# Altium schematic symbol library 逻辑门器件.SCHLIB: 143 symbols
Pins are listed as number, name and electrical type; pins without a type are passive.

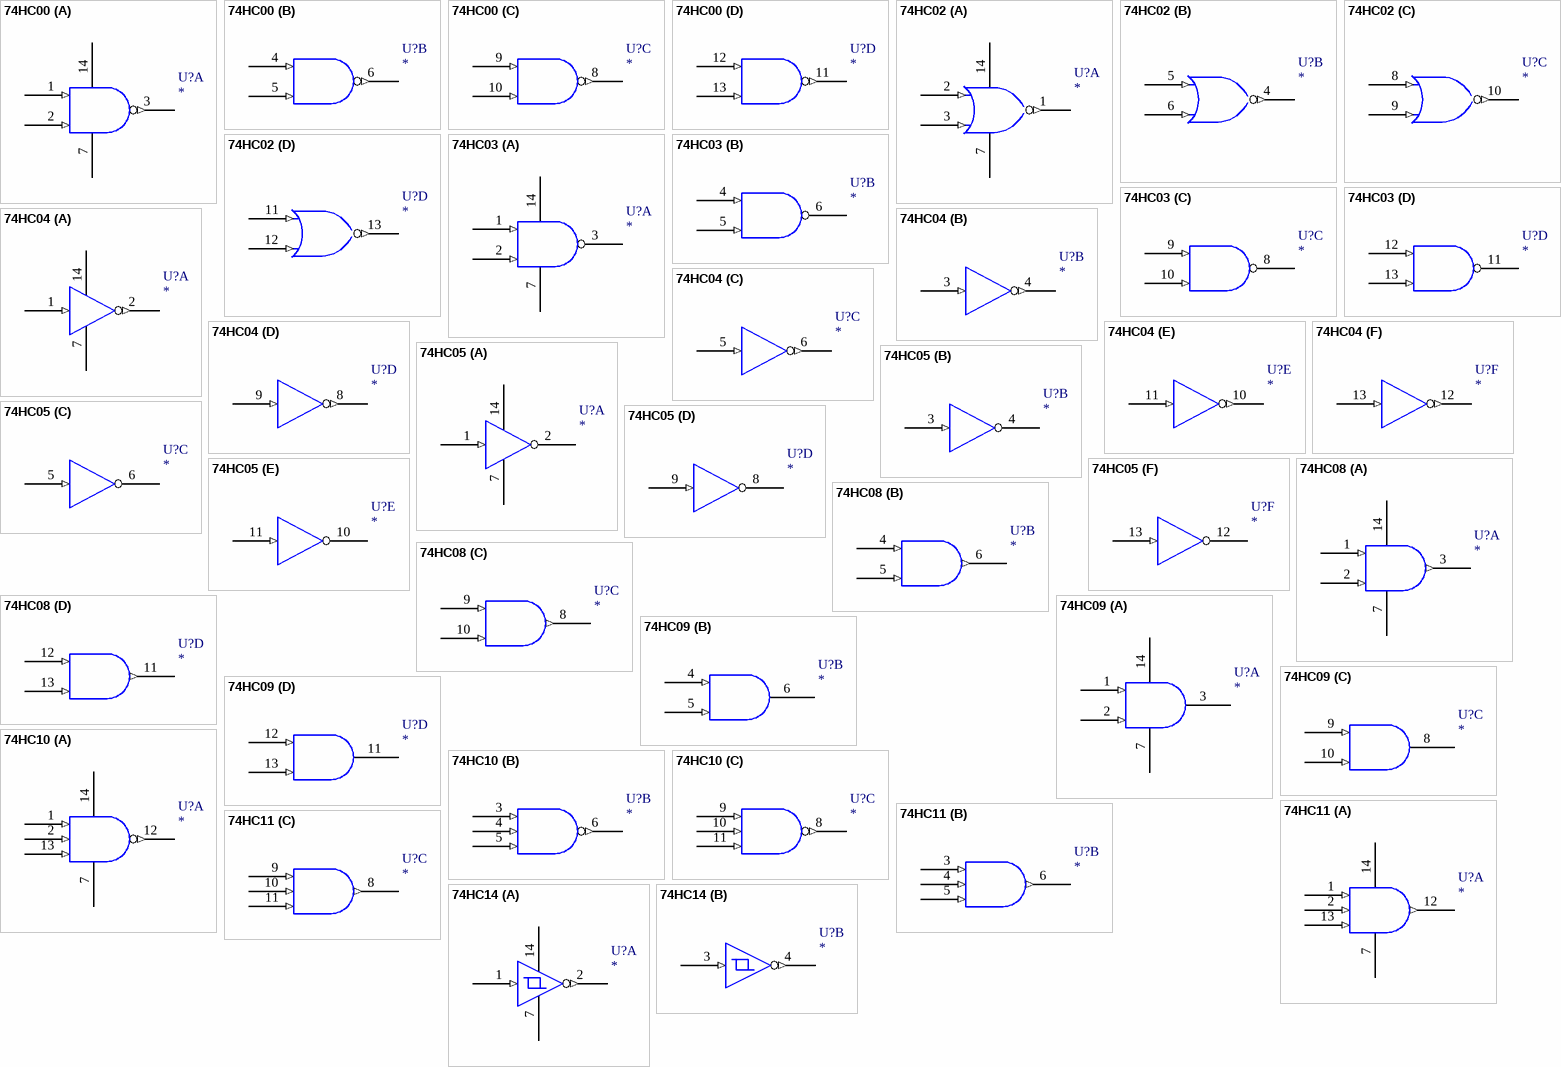
[diagram p0: symbols 74HC00 to 74HC14]

## 74HC00
designator U?
footprint DIP-14
footprint SOIC-14
part A pins: 1 (in), 2 (in), 3 (out), 7 GND (power), 14 VCC (power)
part B pins: 4 (in), 5 (in), 6 (out)
part C pins: 8 (out), 9 (in), 10 (in)
part D pins: 11 (out), 12 (in), 13 (in)

## 74HC02
designator U?
footprint DIP-14
footprint SOIC-14
part A pins: 1 (out), 2 (in), 3 (in), 7 GND (power), 14 VCC (power)
part B pins: 4 (out), 5 (in), 6 (in)
part C pins: 8 (in), 9 (in), 10 (out)
part D pins: 11 (in), 12 (in), 13 (out)

## 74HC03
designator U?
footprint DIP-14
footprint SOIC-14
part A pins: 1 (in), 2 (in), 3 (oc), 7 GND (power), 14 VCC (power)
part B pins: 4 (in), 5 (in), 6 (oc)
part C pins: 8 (oc), 9 (in), 10 (in)
part D pins: 11 (oc), 12 (in), 13 (in)

## 74HC04
designator U?
footprint DIP-14
footprint SOIC-14
part A pins: 1 (in), 2 (out), 7 GND (power), 14 VCC (power)
part B pins: 3 (in), 4 (out)
part C pins: 5 (in), 6 (out)
part D pins: 8 (out), 9 (in)
part E pins: 10 (out), 11 (in)
part F pins: 12 (out), 13 (in)

## 74HC05
designator U?
footprint DIP-14
footprint SOIC-14
part A pins: 1 (in), 2 (oc), 7 GND (power), 14 VCC (power)
part B pins: 3 (in), 4 (oc)
part C pins: 5 (in), 6 (oc)
part D pins: 8 (oc), 9 (in)
part E pins: 10 (oc), 11 (in)
part F pins: 12 (oc), 13 (in)

## 74HC08
designator U?
footprint DIP-14
footprint SOIC-14
part A pins: 1 (in), 2 (in), 3 (out), 7 GND (power), 14 VCC (power)
part B pins: 4 (in), 5 (in), 6 (out)
part C pins: 8 (out), 9 (in), 10 (in)
part D pins: 11 (out), 12 (in), 13 (in)

## 74HC09
designator U?
footprint DIP-14
footprint SOIC-14
part A pins: 1 (in), 2 (in), 3 (oc), 7 GND (power), 14 VCC (power)
part B pins: 4 (in), 5 (in), 6 (oc)
part C pins: 8 (oc), 9 (in), 10 (in)
part D pins: 11 (oc), 12 (in), 13 (in)

## 74HC10
designator U?
footprint DIP-14
footprint SOIC-14
part A pins: 1 (in), 2 (in), 7 GND (power), 12 (out), 13 (in), 14 VCC (power)
part B pins: 3 (in), 4 (in), 5 (in), 6 (out)
part C pins: 8 (out), 9 (in), 10 (in), 11 (in)

## 74HC11
designator U?
footprint DIP-14
footprint SOIC-14
part A pins: 1 (in), 2 (in), 7 GND (power), 12 (out), 13 (in), 14 VCC (power)
part B pins: 3 (in), 4 (in), 5 (in), 6 (out)
part C pins: 8 (out), 9 (in), 10 (in), 11 (in)

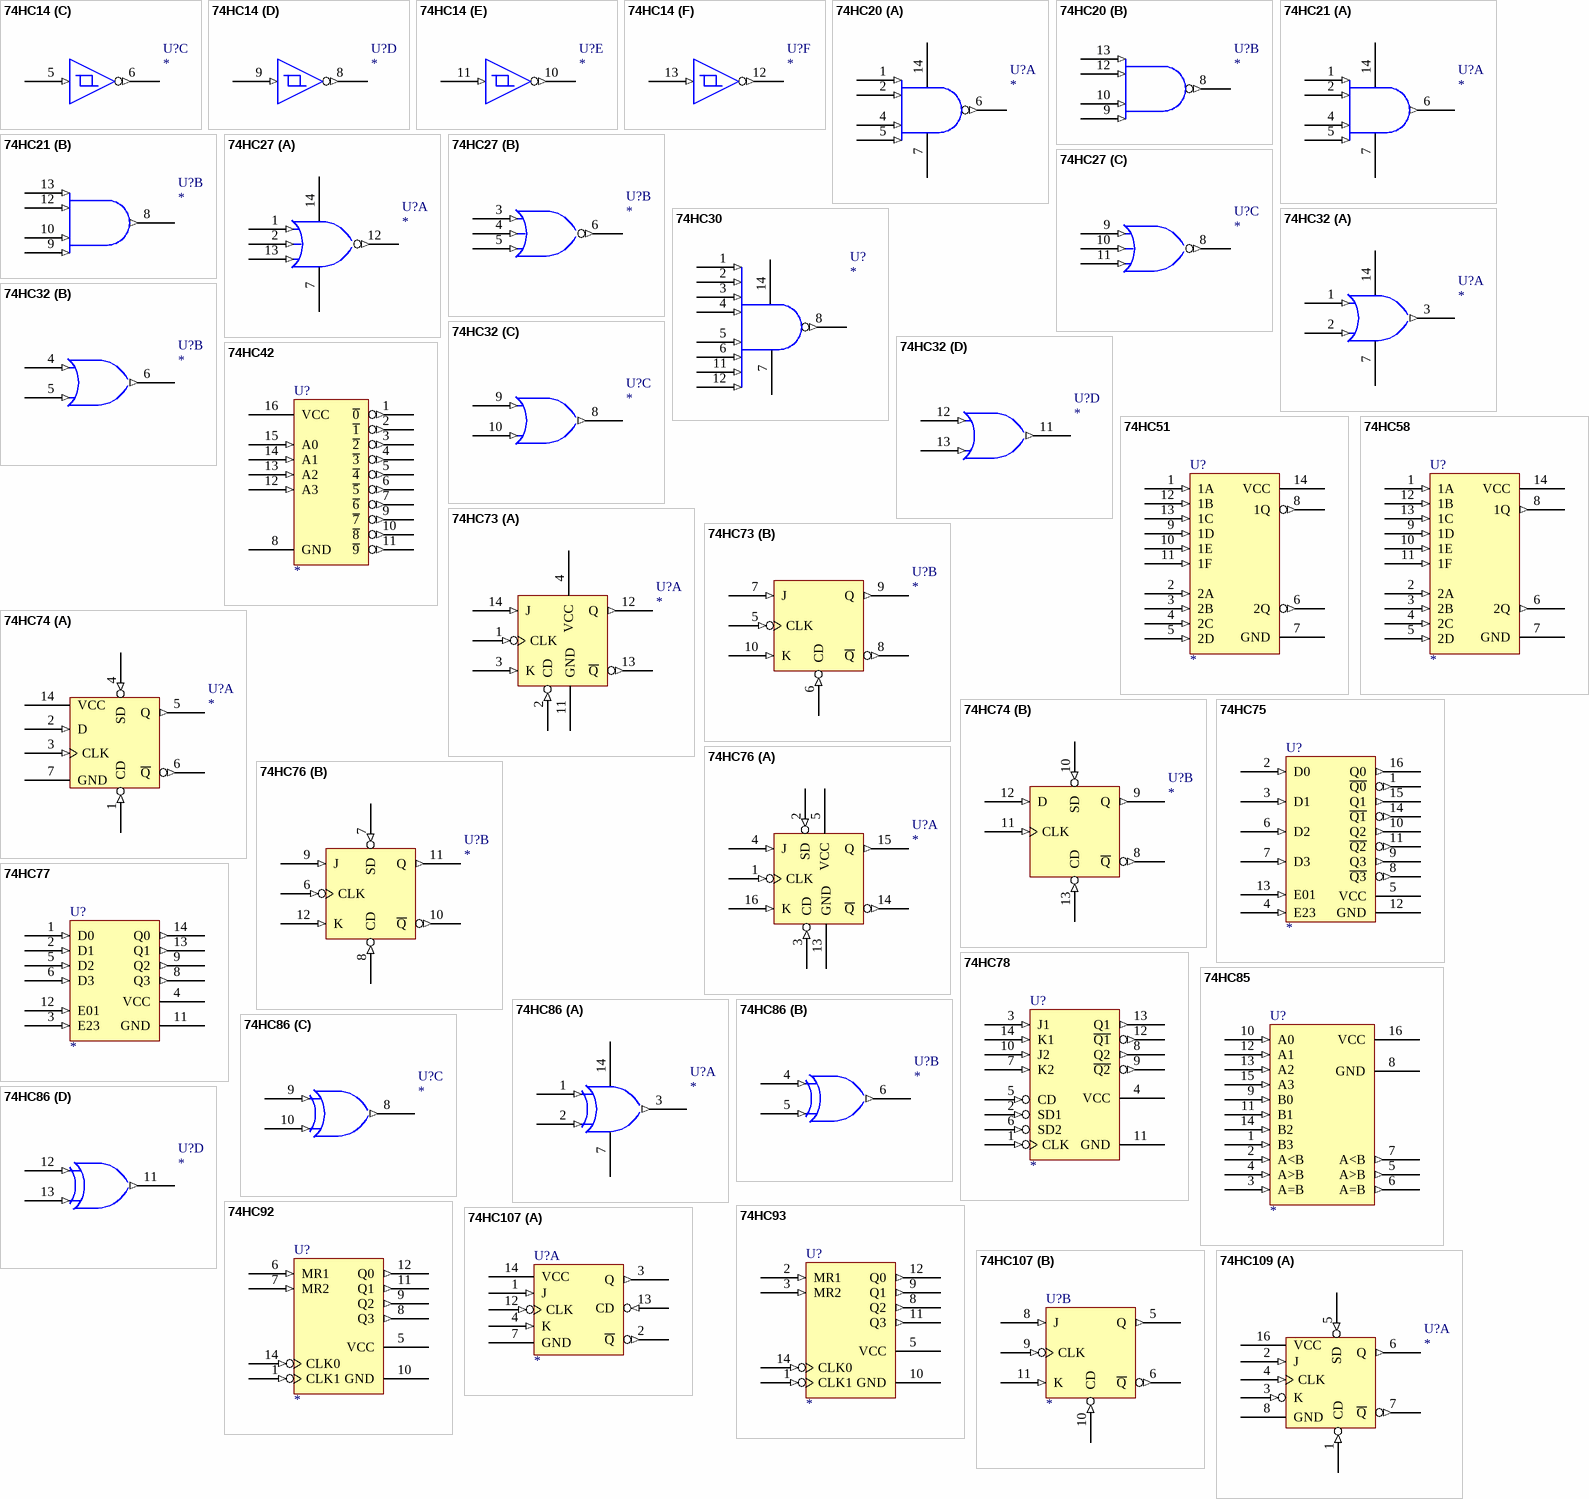
[diagram p1: symbols 74HC14 to 74HC109]

## 74HC14
designator U?
footprint DIP-14
part A pins: 1 (in), 2 (out), 7 GND (power), 14 VCC (power)
part B pins: 3 (in), 4 (out)
part C pins: 5 (in), 6 (out)
part D pins: 8 (out), 9 (in)
part E pins: 10 (out), 11 (in)
part F pins: 12 (out), 13 (in)

## 74HC20
designator U?
footprint DIP-14
footprint SOIC-14
part A pins: 1 (in), 2 (in), 4 (in), 5 (in), 6 (out), 7 GND (power), 14 VCC (power)
part B pins: 8 (out), 9 (in), 10 (in), 12 (in), 13 (in)

## 74HC21
designator U?
footprint DIP-14
footprint SOIC-14
part A pins: 1 (in), 2 (in), 4 (in), 5 (in), 6 (out), 7 GND (power), 14 VCC (power)
part B pins: 8 (out), 9 (in), 10 (in), 12 (in), 13 (in)

## 74HC27
designator U?
footprint DIP-14
footprint SOIC-14
part A pins: 1 (in), 2 (in), 7 GND (power), 12 (out), 13 (in), 14 VCC (power)
part B pins: 3 (in), 4 (in), 5 (in), 6 (out)
part C pins: 8 (out), 9 (in), 10 (in), 11 (in)

## 74HC30
designator U?
footprint DIP-14
footprint SOIC-14
pins: 1 (in), 2 (in), 3 (in), 4 (in), 5 (in), 6 (in), 7 GND (power), 8 (out), 11 (in), 12 (in), 14 VCC (power)

## 74HC32
designator U?
footprint DIP-14
footprint SOIC-14
part A pins: 1 (in), 2 (in), 3 (out), 7 GND (power), 14 VCC (power)
part B pins: 4 (in), 5 (in), 6 (out)
part C pins: 8 (out), 9 (in), 10 (in)
part D pins: 11 (out), 12 (in), 13 (in)

## 74HC42
designator U?
footprint DIP-16
pins: 1 ~{0} (out), 2 ~{1} (out), 3 ~{2} (out), 4 ~{3} (out), 5 ~{4} (out), 6 ~{5} (out), 7 ~{6} (out), 8 GND (power), 9 ~{7} (out), 10 ~{8} (out), 11 ~{9} (out), 12 A3 (in), 13 A2 (in), 14 A1 (in), 15 A0 (in), 16 VCC (power)

## 74HC51
designator U?
footprint DIP-14
pins: 1 1A (in), 2 2A (in), 3 2B (in), 4 2C (in), 5 2D (in), 6 2Q (out), 7 GND (power), 8 1Q (out), 9 1D (in), 10 1E (in), 11 1F (in), 12 1B (in), 13 1C (in), 14 VCC (power)

## 74HC58
designator U?
footprint DIP-14
pins: 1 1A (in), 2 2A (in), 3 2B (in), 4 2C (in), 5 2D (in), 6 2Q (out), 7 GND (power), 8 1Q (out), 9 1D (in), 10 1E (in), 11 1F (in), 12 1B (in), 13 1C (in), 14 VCC (power)

## 74HC73
designator U?
footprint DIP-14
part A pins: 1 CLK (in), 2 CD (in), 3 K (in), 4 VCC (power), 11 GND (power), 12 Q (out), 13 ~{Q} (out), 14 J (in)
part B pins: 5 CLK (in), 6 CD (in), 7 J (in), 8 ~{Q} (out), 9 Q (out), 10 K (in)

## 74HC74
designator U?
footprint DIP-14
footprint SOIC-14
part A pins: 1 CD (in), 2 D (in), 3 CLK (in), 4 SD (in), 5 Q (out), 6 ~{Q} (out), 7 GND (power), 14 VCC (power)
part B pins: 8 ~{Q} (out), 9 Q (out), 10 SD (in), 11 CLK (in), 12 D (in), 13 CD (in)

## 74HC75
designator U?
footprint DIP-16
pins: 1 ~{Q0} (out), 2 D0 (in), 3 D1 (in), 4 E23 (in), 5 VCC (power), 6 D2 (in), 7 D3 (in), 8 ~{Q3} (out), 9 Q3 (out), 10 Q2 (out), 11 ~{Q2} (out), 12 GND (power), 13 E01 (in), 14 ~{Q1} (out), 15 Q1 (out), 16 Q0 (out)

## 74HC76
designator U?
footprint DIP-16
part A pins: 1 CLK (in), 2 SD (in), 3 CD (in), 4 J (in), 5 VCC (power), 13 GND (power), 14 ~{Q} (out), 15 Q (out), 16 K (in)
part B pins: 6 CLK (in), 7 SD (in), 8 CD (in), 9 J (in), 10 ~{Q} (out), 11 Q (out), 12 K (in)

## 74HC77
designator U?
footprint DIP-14
pins: 1 D0 (in), 2 D1 (in), 3 E23 (in), 4 VCC (power), 5 D2 (in), 6 D3 (in), 8 Q3 (out), 9 Q2 (out), 11 GND (power), 12 E01 (in), 13 Q1 (out), 14 Q0 (out)

## 74HC78
designator U?
footprint DIP-14
pins: 1 CLK (in), 2 SD1 (in), 3 J1 (in), 4 VCC (power), 5 CD (in), 6 SD2 (in), 7 K2 (in), 8 Q2 (out), 9 ~{Q2} (out), 10 J2 (in), 11 GND (power), 12 ~{Q1} (out), 13 Q1 (out), 14 K1 (in)

## 74HC85
designator U?
footprint DIP-16
pins: 1 B3 (in), 2 A<B (in), 3 A=B (in), 4 A>B (in), 5 A>B (out), 6 A=B (out), 7 A<B (out), 8 GND (power), 9 B0 (in), 10 A0 (in), 11 B1 (in), 12 A1 (in), 13 A2 (in), 14 B2 (in), 15 A3 (in), 16 VCC (power)

## 74HC86
designator U?
footprint DIP-14
footprint SOIC-14
part A pins: 1 (in), 2 (in), 3 (out), 7 GND (power), 14 VCC (power)
part B pins: 4 (in), 5 (in), 6 (out)
part C pins: 8 (out), 9 (in), 10 (in)
part D pins: 11 (out), 12 (in), 13 (in)

## 74HC92
designator U?
footprint DIP-14
pins: 1 CLK1 (in), 5 VCC (power), 6 MR1 (in), 7 MR2 (in), 8 Q3 (out), 9 Q2 (out), 10 GND (power), 11 Q1 (out), 12 Q0 (out), 14 CLK0 (in)

## 74HC93
designator U?
footprint DIP-14
pins: 1 CLK1 (in), 2 MR1 (in), 3 MR2 (in), 5 VCC (power), 8 Q2 (out), 9 Q1 (out), 10 GND (power), 11 Q3 (out), 12 Q0 (out), 14 CLK0 (in)

## 74HC107
designator U?
footprint DIP-14
part A pins: 1 J (in), 2 ~{Q} (out), 3 Q (out), 4 K (in), 7 GND (power), 12 CLK (in), 13 CD (in), 14 VCC (power)
part B pins: 5 Q (out), 6 ~{Q} (out), 8 J (in), 9 CLK (in), 10 CD (in), 11 K (in)

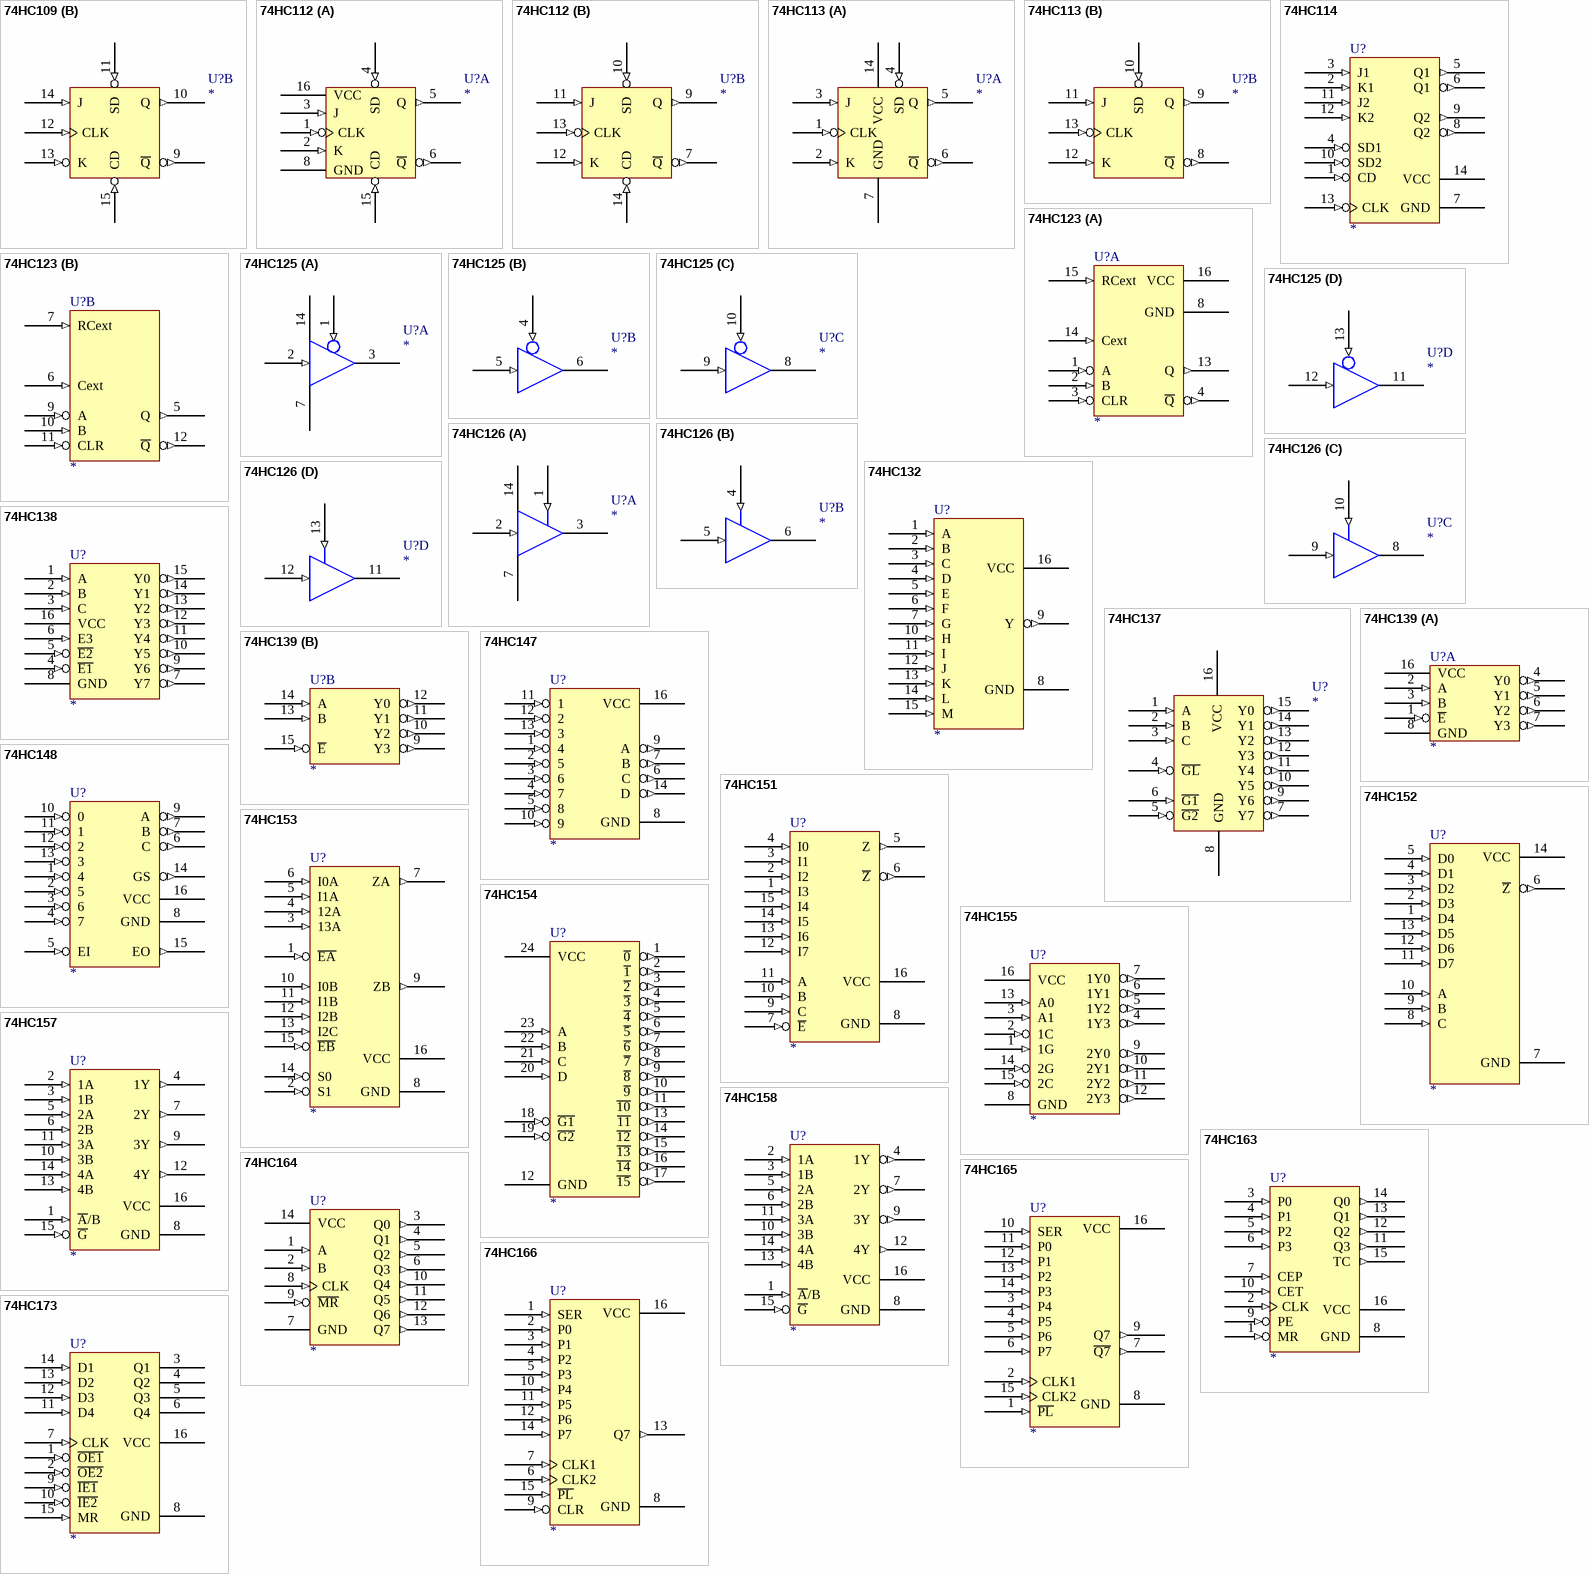
[diagram p2: symbols 74HC109 to 74HC173]

## 74HC109
designator U?
footprint DIP-16
footprint SOIC-16
part A pins: 1 CD (in), 2 J (in), 3 K (in), 4 CLK (in), 5 SD (in), 6 Q (out), 7 ~{Q} (out), 8 GND (power), 16 VCC (power)
part B pins: 9 ~{Q} (out), 10 Q (out), 11 SD (in), 12 CLK (in), 13 K (in), 14 J (in), 15 CD (in)

## 74HC112
designator U?
footprint DIP-16
footprint SOIC-16
part A pins: 1 CLK (in), 2 K (in), 3 J (in), 4 SD (in), 5 Q (out), 6 ~{Q} (out), 8 GND (power), 15 CD (in), 16 VCC (power)
part B pins: 7 ~{Q} (out), 9 Q (out), 10 SD (in), 11 J (in), 12 K (in), 13 CLK (in), 14 CD (in)

## 74HC113
designator U?
footprint DIP-14
footprint SOIC-14
part A pins: 1 CLK (in), 2 K (in), 3 J (in), 4 SD (in), 5 Q (out), 6 ~{Q} (out), 7 GND (power), 14 VCC (power)
part B pins: 8 ~{Q} (out), 9 Q (out), 10 SD (in), 11 J (in), 12 K (in), 13 CLK (in)

## 74HC114
designator U?
footprint DIP-14
footprint SOIC-14
pins: 1 CD (in), 2 K1 (in), 3 J1 (in), 4 SD1 (in), 5 Q1 (out), 6 Q1 (out), 7 GND (power), 8 Q2 (out), 9 Q2 (out), 10 SD2 (in), 11 J2 (in), 12 K2 (in), 13 CLK (in), 14 VCC (power)

## 74HC123
designator U?
footprint DIP-16
part A pins: 1 A (in), 2 B (in), 3 CLR (in), 4 ~{Q} (out), 8 GND (power), 13 Q (out), 14 Cext (in), 15 RCext (in), 16 VCC (power)
part B pins: 5 Q (out), 6 Cext (in), 7 RCext (in), 8 GND (power) hidden to GND, 9 A (in), 10 B (in), 11 CLR (in), 12 ~{Q} (out), 16 VCC (power) hidden to VCC

## 74HC125
designator U?
footprint DIP-14
part A pins: 1 (in), 2 (in), 3 (hiz), 7 GND (power), 14 VCC (power)
part B pins: 4 (in), 5 (in), 6 (hiz)
part C pins: 8 (hiz), 9 (in), 10 (in)
part D pins: 11 (hiz), 12 (in), 13 (in)

## 74HC126
designator U?
footprint DIP-14
part A pins: 1 (in), 2 (in), 3 (hiz), 7 GND (power), 14 VCC (power)
part B pins: 4 (in), 5 (in), 6 (hiz)
part C pins: 8 (hiz), 9 (in), 10 (in)
part D pins: 11 (hiz), 12 (in), 13 (in)

## 74HC132
designator U?
footprint DIP-16
footprint SOIC-16
pins: 1 A (in), 2 B (in), 3 C (in), 4 D (in), 5 E (in), 6 F (in), 7 G (in), 8 GND (power), 9 Y (out), 10 H (in), 11 I (in), 12 J (in), 13 K (in), 14 L (in), 15 M (in), 16 VCC (power)

## 74HC137
designator U?
footprint DIP-16
footprint SOIC-16
pins: 1 A (in), 2 B (in), 3 C (in), 4 ~{GL} (in), 5 ~{G2} (in), 6 ~{G1} (in), 7 Y7 (out), 8 GND (power), 9 Y6 (out), 10 Y5 (out), 11 Y4 (out), 12 Y3 (out), 13 Y2 (out), 14 Y1 (out), 15 Y0 (out), 16 VCC (power)

## 74HC138
designator U?
footprint DIP-16
footprint SOIC-16
pins: 1 A (in), 2 B (in), 3 C (in), 4 ~{E1} (in), 5 ~{E2} (in), 6 E3 (in), 7 Y7 (out), 8 GND (power), 9 Y6 (out), 10 Y5 (out), 11 Y4 (out), 12 Y3 (out), 13 Y2 (out), 14 Y1 (out), 15 Y0 (out), 16 VCC (power)

## 74HC139
designator U?
footprint DIP-16
part A pins: 1 ~{E} (in), 2 A (in), 3 B (in), 4 Y0 (out), 5 Y1 (out), 6 Y2 (out), 7 Y3 (out), 8 GND (power), 16 VCC (power)
part B pins: 9 Y3 (out), 10 Y2 (out), 11 Y1 (out), 12 Y0 (out), 13 B (in), 14 A (in), 15 ~{E} (in)

## 74HC147
designator U?
footprint DIP-16
pins: 1 4 (in), 2 5 (in), 3 6 (in), 4 7 (in), 5 8 (in), 6 C (out), 7 B (out), 8 GND (power), 9 A (out), 10 9 (in), 11 1 (in), 12 2 (in), 13 3 (in), 14 D (out), 16 VCC (power)

## 74HC148
designator U?
footprint DIP-16
pins: 1 4 (in), 2 5 (in), 3 6 (in), 4 7 (in), 5 EI (in), 6 C (out), 7 B (out), 8 GND (power), 9 A (out), 10 0 (in), 11 1 (in), 12 2 (in), 13 3 (in), 14 GS (out), 15 EO (out), 16 VCC (power)

## 74HC151
designator U?
footprint DIP-16
pins: 1 I3 (in), 2 I2 (in), 3 I1 (in), 4 I0 (in), 5 Z (out), 6 ~{Z} (out), 7 ~{E} (in), 8 GND (power), 9 C (in), 10 B (in), 11 A (in), 12 I7 (in), 13 I6 (in), 14 I5 (in), 15 I4 (in), 16 VCC (power)

## 74HC152
designator U?
footprint DIP-14
pins: 1 D4 (in), 2 D3 (in), 3 D2 (in), 4 D1 (in), 5 D0 (in), 6 ~{Z} (out), 7 GND (power), 8 C (in), 9 B (in), 10 A (in), 11 D7 (in), 12 D6 (in), 13 D5 (in), 14 VCC (power)

## 74HC153
designator U?
footprint DIP-16
footprint SOIC-16
pins: 1 ~{EA} (in), 2 S1 (in), 3 13A (in), 4 12A (in), 5 I1A (in), 6 I0A (in), 7 ZA (out), 8 GND (power), 9 ZB (out), 10 I0B (in), 11 I1B (in), 12 I2B (in), 13 I2C (in), 14 S0 (in), 15 ~{EB} (in), 16 VCC (power)

## 74HC154
designator U?
footprint DIP-24
pins: 1 ~{0} (out), 2 ~{1} (out), 3 ~{2} (out), 4 ~{3} (out), 5 ~{4} (out), 6 ~{5} (out), 7 ~{6} (out), 8 ~{7} (out), 9 ~{8} (out), 10 ~{9} (out), 11 ~{10} (out), 12 GND (power), 13 ~{11} (out), 14 ~{12} (out), 15 ~{13} (out), 16 ~{14} (out), 17 ~{15} (out), 18 ~{G1} (in), 19 ~{G2} (in), 20 D (in), 21 C (in), 22 B (in), 23 A (in), 24 VCC (power)

## 74HC155
designator U?
footprint DIP-16
pins: 1 1G (in), 2 1C (in), 3 A1 (in), 4 1Y3 (out), 5 1Y2 (out), 6 1Y1 (out), 7 1Y0 (out), 8 GND (power), 9 2Y0 (out), 10 2Y1 (out), 11 2Y2 (out), 12 2Y3 (out), 13 A0 (in), 14 2G (in), 15 2C (in), 16 VCC (power)

## 74HC157
designator U?
footprint DIP-16
footprint SOIC-16
pins: 1 ~{A}/B (in), 2 1A (in), 3 1B (in), 4 1Y (out), 5 2A (in), 6 2B (in), 7 2Y (out), 8 GND (power), 9 3Y (out), 10 3B (in), 11 3A (in), 12 4Y (out), 13 4B (in), 14 4A (in), 15 ~{G} (in), 16 VCC (power)

## 74HC158
designator U?
footprint DIP-16
footprint SOIC-16
pins: 1 ~{A}/B (in), 2 1A (in), 3 1B (in), 4 1Y (out), 5 2A (in), 6 2B (in), 7 2Y (out), 8 GND (power), 9 3Y (out), 10 3B (in), 11 3A (in), 12 4Y (out), 13 4B (in), 14 4A (in), 15 ~{G} (in), 16 VCC (power)

## 74HC163
designator U?
footprint DIP-16
footprint SOIC-16
pins: 1 MR (in), 2 CLK (in), 3 P0 (in), 4 P1 (in), 5 P2 (in), 6 P3 (in), 7 CEP (in), 8 GND (power), 9 PE (in), 10 CET (in), 11 Q3 (out), 12 Q2 (out), 13 Q1 (out), 14 Q0 (out), 15 TC (out), 16 VCC (power)

## 74HC164
designator U?
footprint DIP-14
pins: 1 A (in), 2 B (in), 3 Q0 (out), 4 Q1 (out), 5 Q2 (out), 6 Q3 (out), 7 GND (power), 8 CLK (in), 9 ~{MR} (in), 10 Q4 (out), 11 Q5 (out), 12 Q6 (out), 13 Q7 (out), 14 VCC (power)

## 74HC165
designator U?
footprint DIP-16
footprint SOIC-16
pins: 1 ~{PL} (in), 2 CLK1 (in), 3 P4 (in), 4 P5 (in), 5 P6 (in), 6 P7 (in), 7 ~{Q7} (out), 8 GND (power), 9 Q7 (out), 10 SER (in), 11 P0 (in), 12 P1 (in), 13 P2 (in), 14 P3 (in), 15 CLK2 (in), 16 VCC (power)

## 74HC166
designator U?
footprint DIP-16
footprint SOIC-16
pins: 1 SER (in), 2 P0 (in), 3 P1 (in), 4 P2 (in), 5 P3 (in), 6 CLK2 (in), 7 CLK1 (in), 8 GND (power), 9 CLR (in), 10 P4 (in), 11 P5 (in), 12 P6 (in), 13 Q7 (out), 14 P7 (in), 15 ~{PL} (in), 16 VCC (power)

## 74HC173
designator U?
footprint DIP-16
pins: 1 ~{OE1} (in), 2 ~{OE2} (in), 3 Q1 (hiz), 4 Q2 (hiz), 5 Q3 (hiz), 6 Q4 (hiz), 7 CLK (in), 8 GND (power), 9 ~{IE1} (in), 10 ~{IE2} (in), 11 D4 (in), 12 D3 (in), 13 D2 (in), 14 D1 (in), 15 MR (in), 16 VCC (power)

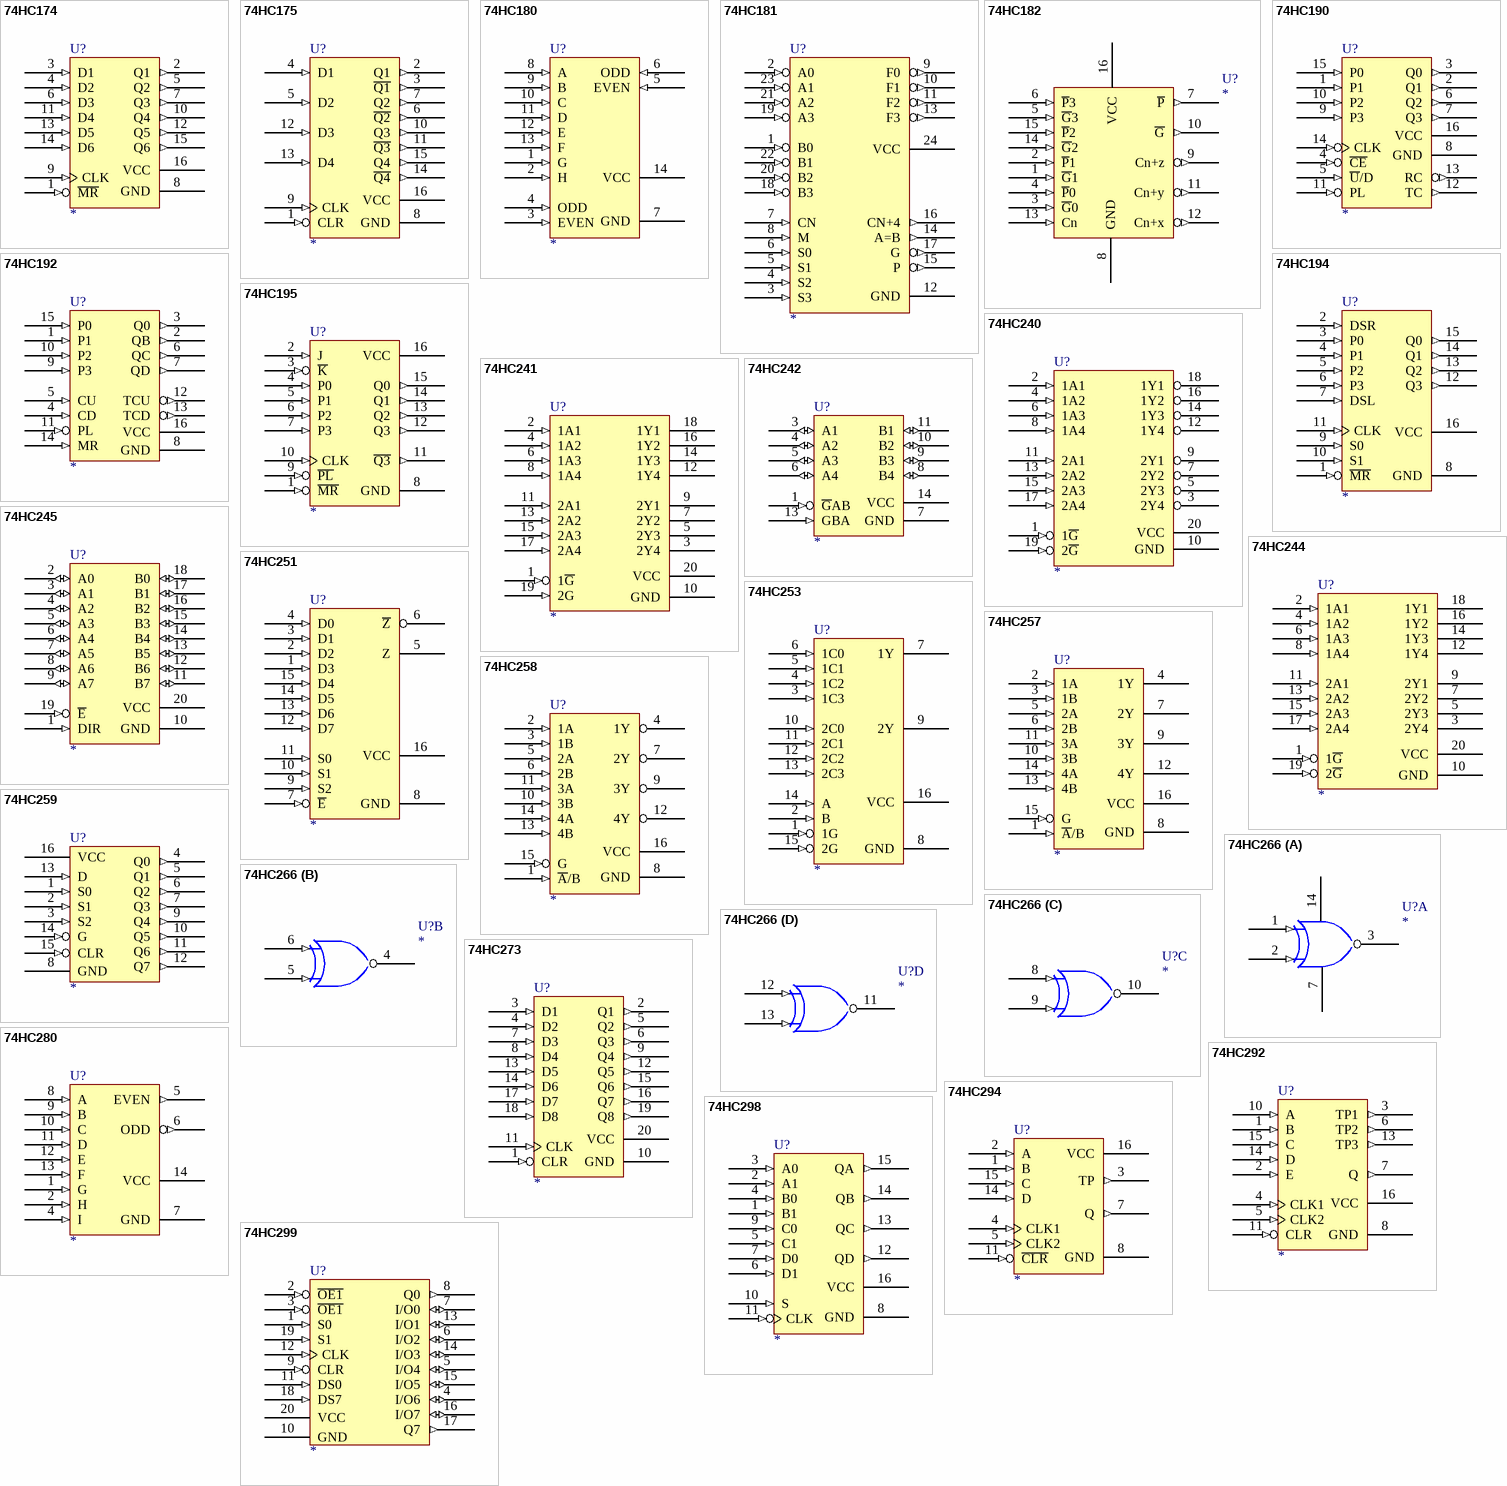
[diagram p3: symbols 74HC174 to 74HC299]

## 74HC174
designator U?
footprint DIP-16
footprint SOIC-16
pins: 1 ~{MR} (in), 2 Q1 (out), 3 D1 (in), 4 D2 (in), 5 Q2 (out), 6 D3 (in), 7 Q3 (out), 8 GND (power), 9 CLK (in), 10 Q4 (out), 11 D4 (in), 12 Q5 (out), 13 D5 (in), 14 D6 (in), 15 Q6 (out), 16 VCC (power)

## 74HC175
designator U?
footprint DIP-16
pins: 1 CLR (in), 2 Q1 (out), 3 ~{Q1} (out), 4 D1 (in), 5 D2 (in), 6 ~{Q2} (out), 7 Q2 (out), 8 GND (power), 9 CLK (in), 10 Q3 (out), 11 ~{Q3} (out), 12 D3 (in), 13 D4 (in), 14 ~{Q4} (out), 15 Q4 (out), 16 VCC (power)

## 74HC180
designator U?
footprint DIP-14
pins: 1 G (in), 2 H (in), 3 EVEN (in), 4 ODD (in), 5 EVEN (in), 6 ODD (in), 7 GND (power), 8 A (in), 9 B (in), 10 C (in), 11 D (in), 12 E (in), 13 F (in), 14 VCC (power)

## 74HC181
designator U?
footprint DIP-24
pins: 1 B0 (in), 2 A0 (in), 3 S3 (in), 4 S2 (in), 5 S1 (in), 6 S0 (in), 7 CN (in), 8 M (in), 9 F0 (out), 10 F1 (out), 11 F2 (out), 12 GND (power), 13 F3 (out), 14 A=B (out), 15 P (out), 16 CN+4 (out), 17 G (out), 18 B3 (in), 19 A3 (in), 20 B2 (in), 21 A2 (in), 22 B1 (in), 23 A1 (in), 24 VCC (power)

## 74HC182
designator U?
footprint DIP-16
pins: 1 ~{G}1 (in), 2 ~{P}1 (in), 3 ~{G}0 (in), 4 ~{P}0 (in), 5 ~{G}3 (in), 6 ~{P}3 (in), 7 ~{P} (out), 8 GND (power), 9 Cn+z (out), 10 ~{G} (out), 11 Cn+y (out), 12 Cn+x (out), 13 Cn (in), 14 ~{G}2 (in), 15 ~{P}2 (in), 16 VCC (power)

## 74HC190
designator U?
footprint DIP-16
pins: 1 P1 (in), 2 Q1 (out), 3 Q0 (out), 4 ~{CE} (in), 5 ~{U}/D (in), 6 Q2 (out), 7 Q3 (out), 8 GND (power), 9 P3 (in), 10 P2 (in), 11 PL (in), 12 TC (out), 13 RC (out), 14 CLK (in), 15 P0 (in), 16 VCC (power)

## 74HC192
designator U?
footprint DIP-16
pins: 1 P1 (in), 2 QB (out), 3 Q0 (out), 4 CD (in), 5 CU (in), 6 QC (out), 7 QD (out), 8 GND (power), 9 P3 (in), 10 P2 (in), 11 PL (in), 12 TCU (out), 13 TCD (out), 14 MR (in), 15 P0 (in), 16 VCC (power)

## 74HC194
designator U?
footprint DIP-16
pins: 1 ~{MR} (in), 2 DSR (in), 3 P0 (in), 4 P1 (in), 5 P2 (in), 6 P3 (in), 7 DSL (in), 8 GND (power), 9 S0 (in), 10 S1 (in), 11 CLK (in), 12 Q3 (out), 13 Q2 (out), 14 Q1 (out), 15 Q0 (out), 16 VCC (power)

## 74HC195
designator U?
footprint DIP-16
pins: 1 ~{MR} (in), 2 J (in), 3 ~{K} (in), 4 P0 (in), 5 P1 (in), 6 P2 (in), 7 P3 (in), 8 GND (power), 9 ~{PL} (in), 10 CLK (in), 11 ~{Q3} (out), 12 Q3 (out), 13 Q2 (out), 14 Q1 (out), 15 Q0 (out), 16 VCC (power)

## 74HC240
designator U?
footprint DIP-20
pins: 1 1~{G} (in), 2 1A1 (in), 3 2Y4 (hiz), 4 1A2 (in), 5 2Y3 (hiz), 6 1A3 (in), 7 2Y2 (hiz), 8 1A4 (in), 9 2Y1 (hiz), 10 GND (power), 11 2A1 (in), 12 1Y4 (hiz), 13 2A2 (in), 14 1Y3 (hiz), 15 2A3 (in), 16 1Y2 (hiz), 17 2A4 (in), 18 1Y1 (hiz), 19 2~{G} (in), 20 VCC (power)

## 74HC241
designator U?
footprint DIP-20
pins: 1 1~{G} (in), 2 1A1 (in), 3 2Y4 (hiz), 4 1A2 (in), 5 2Y3 (hiz), 6 1A3 (in), 7 2Y2 (hiz), 8 1A4 (in), 9 2Y1 (hiz), 10 GND (power), 11 2A1 (in), 12 1Y4 (hiz), 13 2A2 (in), 14 1Y3 (hiz), 15 2A3 (in), 16 1Y2 (hiz), 17 2A4 (in), 18 1Y1 (hiz), 19 2G (in), 20 VCC (power)

## 74HC242
designator U?
footprint DIP-14
pins: 1 ~{G}AB (in), 3 A1 (io), 4 A2 (io), 5 A3 (io), 6 A4 (io), 7 GND (power), 8 B4 (io), 9 B3 (io), 10 B2 (io), 11 B1 (io), 13 GBA (in), 14 VCC (power)

## 74HC244
designator U?
footprint DIP-20
pins: 1 1~{G} (in), 2 1A1 (in), 3 2Y4 (hiz), 4 1A2 (in), 5 2Y3 (hiz), 6 1A3 (in), 7 2Y2 (hiz), 8 1A4 (in), 9 2Y1 (hiz), 10 GND (power), 11 2A1 (in), 12 1Y4 (hiz), 13 2A2 (in), 14 1Y3 (hiz), 15 2A3 (in), 16 1Y2 (hiz), 17 2A4 (in), 18 1Y1 (hiz), 19 2~{G} (in), 20 VCC (power)

## 74HC245
designator U?
footprint DIP-20
pins: 1 DIR (in), 2 A0 (io), 3 A1 (io), 4 A2 (io), 5 A3 (io), 6 A4 (io), 7 A5 (io), 8 A6 (io), 9 A7 (io), 10 GND (power), 11 B7 (io), 12 B6 (io), 13 B5 (io), 14 B4 (io), 15 B3 (io), 16 B2 (io), 17 B1 (io), 18 B0 (io), 19 ~{E} (in), 20 VCC (power)

## 74HC251
designator U?
footprint DIP-16
pins: 1 D3 (in), 2 D2 (in), 3 D1 (in), 4 D0 (in), 5 Z (hiz), 6 ~{Z} (hiz), 7 ~{E} (in), 8 GND (power), 9 S2 (in), 10 S1 (in), 11 S0 (in), 12 D7 (in), 13 D6 (in), 14 D5 (in), 15 D4 (in), 16 VCC (power)

## 74HC253
designator U?
footprint DIP-16
pins: 1 1G (in), 2 B (in), 3 1C3 (in), 4 1C2 (in), 5 1C1 (in), 6 1C0 (in), 7 1Y (hiz), 8 GND (power), 9 2Y (hiz), 10 2C0 (in), 11 2C1 (in), 12 2C2 (in), 13 2C3 (in), 14 A (in), 15 2G (in), 16 VCC (power)

## 74HC257
designator U?
footprint DIP-16
pins: 1 ~{A}/B (in), 2 1A (in), 3 1B (in), 4 1Y (hiz), 5 2A (in), 6 2B (in), 7 2Y (hiz), 8 GND (power), 9 3Y (hiz), 10 3B (in), 11 3A (in), 12 4Y (hiz), 13 4B (in), 14 4A (in), 15 G (in), 16 VCC (power)

## 74HC258
designator U?
footprint DIP-16
pins: 1 ~{A}/B (in), 2 1A (in), 3 1B (in), 4 1Y (hiz), 5 2A (in), 6 2B (in), 7 2Y (hiz), 8 GND (power), 9 3Y (hiz), 10 3B (in), 11 3A (in), 12 4Y (hiz), 13 4B (in), 14 4A (in), 15 G (in), 16 VCC (power)

## 74HC259
designator U?
footprint DIP-16
pins: 1 S0 (in), 2 S1 (in), 3 S2 (in), 4 Q0 (out), 5 Q1 (out), 6 Q2 (out), 7 Q3 (out), 8 GND (power), 9 Q4 (out), 10 Q5 (out), 11 Q6 (out), 12 Q7 (out), 13 D (in), 14 G (in), 15 CLR (in), 16 VCC (power)

## 74HC266
designator U?
footprint DIP-14
part A pins: 1 (in), 2 (in), 3 (oc), 7 GND (power), 14 VCC (power)
part B pins: 4 (oc), 5 (in), 6 (in)
part C pins: 8 (in), 9 (in), 10 (oc)
part D pins: 11 (oc), 12 (in), 13 (in)

## 74HC273
designator U?
footprint DIP-20
pins: 1 CLR (in), 2 Q1 (out), 3 D1 (in), 4 D2 (in), 5 Q2 (out), 6 Q3 (out), 7 D3 (in), 8 D4 (in), 9 Q4 (out), 10 GND (power), 11 CLK (in), 12 Q5 (out), 13 D5 (in), 14 D6 (in), 15 Q6 (out), 16 Q7 (out), 17 D7 (in), 18 D8 (in), 19 Q8 (out), 20 VCC (power)

## 74HC280
designator U?
footprint DIP-14
pins: 1 G (in), 2 H (in), 4 I (in), 5 EVEN (out), 6 ODD (out), 7 GND (power), 8 A (in), 9 B (in), 10 C (in), 11 D (in), 12 E (in), 13 F (in), 14 VCC (power)

## 74HC292
designator U?
footprint DIP-16
pins: 1 B (in), 2 E (in), 3 TP1 (out), 4 CLK1 (in), 5 CLK2 (in), 6 TP2 (out), 7 Q (out), 8 GND (power), 10 A (in), 11 CLR (in), 13 TP3 (out), 14 D (in), 15 C (in), 16 VCC (power)

## 74HC294
designator U?
footprint DIP-16
pins: 1 B (in), 2 A (in), 3 TP (out), 4 CLK1 (in), 5 CLK2 (in), 7 Q (out), 8 GND (power), 11 ~{CLR} (in), 14 D (in), 15 C (in), 16 VCC (power)

## 74HC298
designator U?
footprint DIP-16
pins: 1 B1 (in), 2 A1 (in), 3 A0 (in), 4 B0 (in), 5 C1 (in), 6 D1 (in), 7 D0 (in), 8 GND (power), 9 C0 (in), 10 S (in), 11 CLK (in), 12 QD (out), 13 QC (out), 14 QB (out), 15 QA (out), 16 VCC (power)

## 74HC299
designator U?
footprint DIP-20
pins: 1 S0 (in), 2 ~{OE1} (in), 3 ~{OE1} (in), 4 I/O6 (io), 5 I/O4 (io), 6 I/O2 (io), 7 I/O0 (io), 8 Q0 (out), 9 CLR (in), 10 GND (power), 11 DS0 (in), 12 CLK (in), 13 I/O1 (io), 14 I/O3 (io), 15 I/O5 (io), 16 I/O7 (io), 17 Q7 (out), 18 DS7 (in), 19 S1 (in), 20 VCC (power)

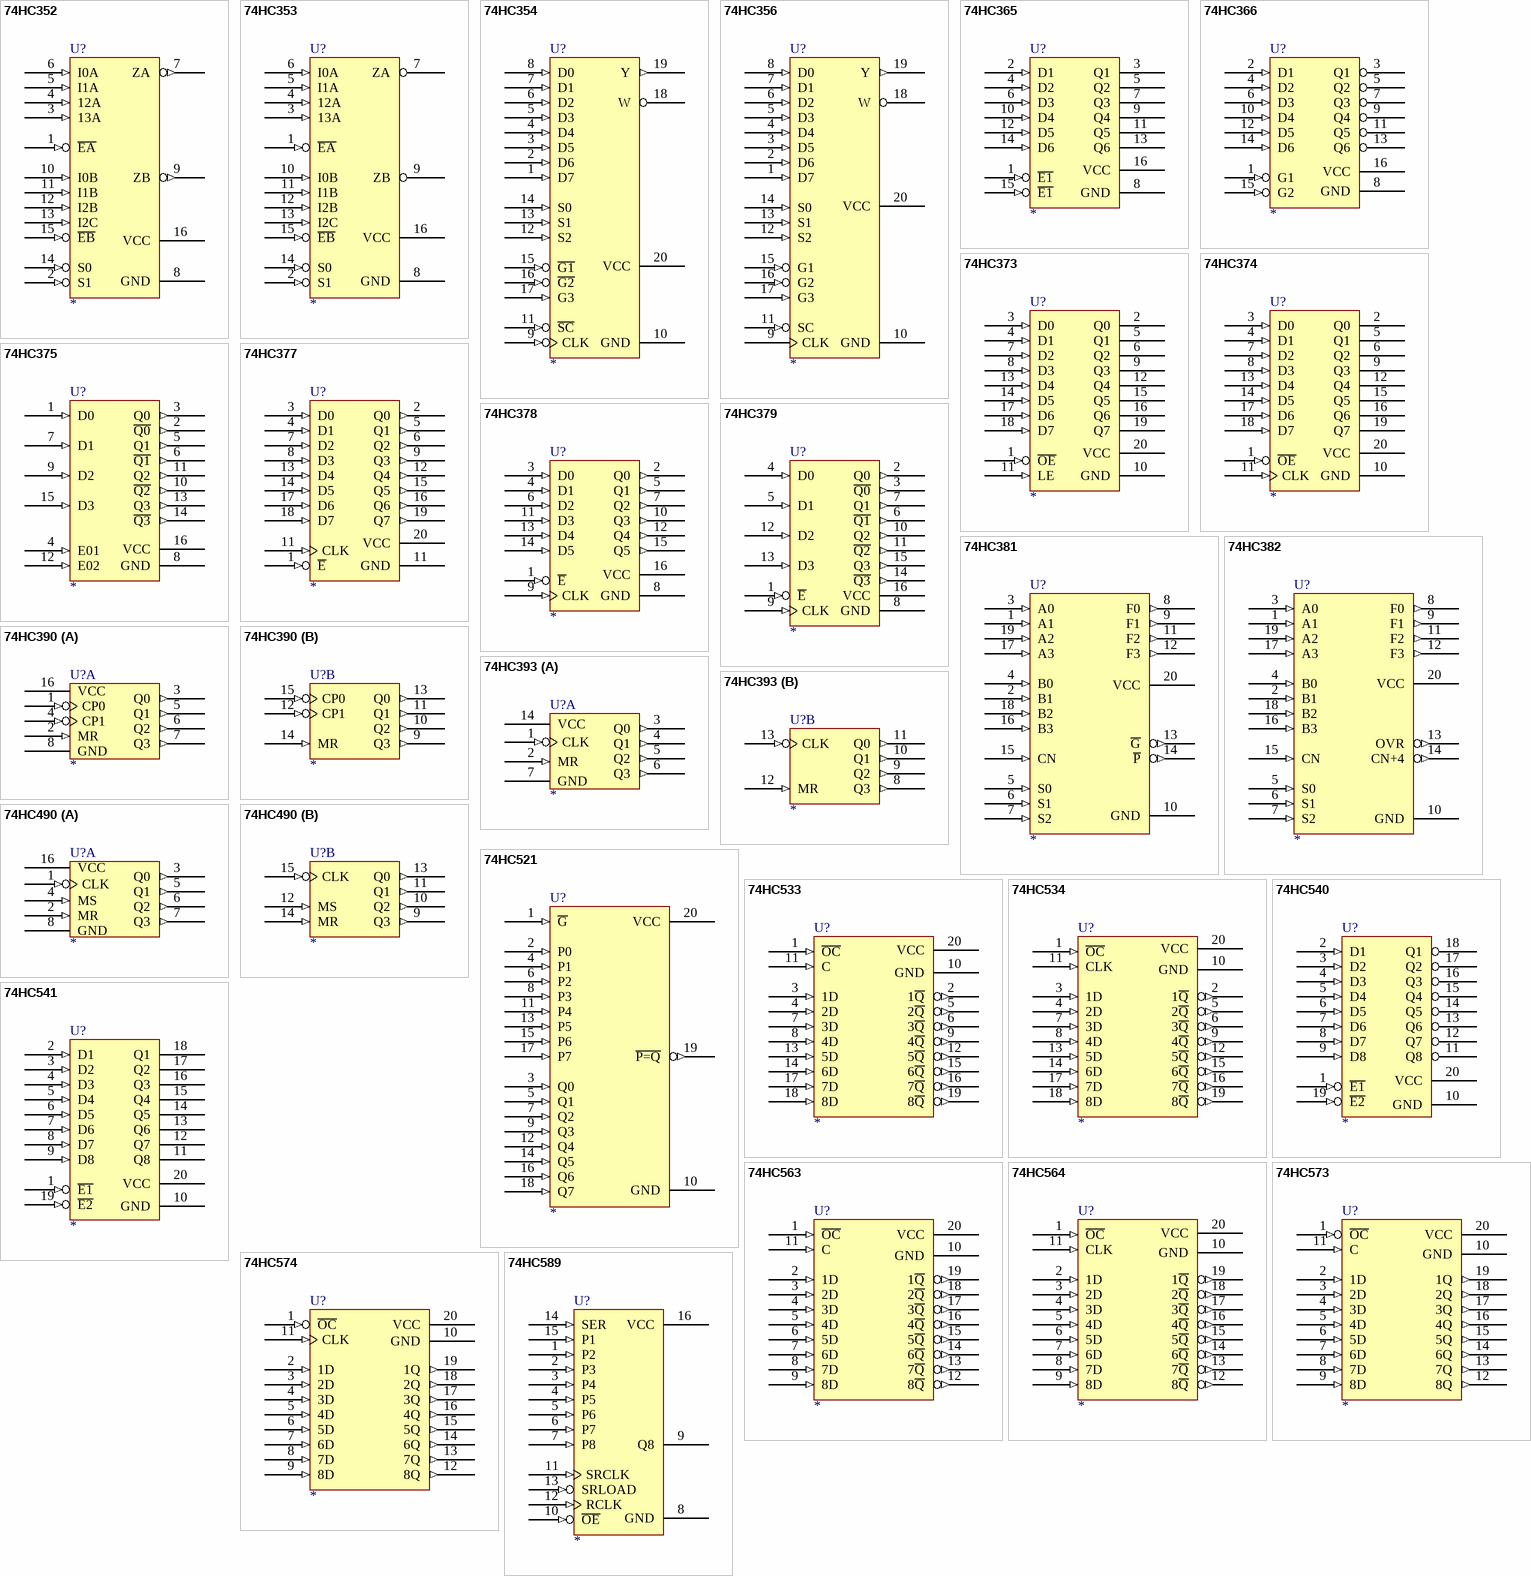
[diagram p4: symbols 74HC352 to 74HC589]

## 74HC352
designator U?
footprint DIP-16
pins: 1 ~{EA} (in), 2 S1 (in), 3 13A (in), 4 12A (in), 5 I1A (in), 6 I0A (in), 7 ZA (out), 8 GND (power), 9 ZB (out), 10 I0B (in), 11 I1B (in), 12 I2B (in), 13 I2C (in), 14 S0 (in), 15 ~{EB} (in), 16 VCC (power)

## 74HC353
designator U?
footprint DIP-16
pins: 1 ~{EA} (in), 2 S1 (in), 3 13A (in), 4 12A (in), 5 I1A (in), 6 I0A (in), 7 ZA (hiz), 8 GND (power), 9 ZB (hiz), 10 I0B (in), 11 I1B (in), 12 I2B (in), 13 I2C (in), 14 S0 (in), 15 ~{EB} (in), 16 VCC (power)

## 74HC354
designator U?
footprint DIP-20
pins: 1 D7 (in), 2 D6 (in), 3 D5 (in), 4 D4 (in), 5 D3 (in), 6 D2 (in), 7 D1 (in), 8 D0 (in), 9 CLK (in), 10 GND (power), 11 ~{SC} (in), 12 S2 (in), 13 S1 (in), 14 S0 (in), 15 ~{G1} (in), 16 ~{G2} (in), 17 G3 (in), 18 W (hiz), 19 Y (out), 20 VCC (power)

## 74HC356
designator U?
footprint DIP-20
pins: 1 D7 (in), 2 D6 (in), 3 D5 (in), 4 D4 (in), 5 D3 (in), 6 D2 (in), 7 D1 (in), 8 D0 (in), 9 CLK, 10 GND (power), 11 SC (in), 12 S2 (in), 13 S1 (in), 14 S0 (in), 15 G1 (in), 16 G2 (in), 17 G3 (in), 18 W (hiz), 19 Y (out), 20 VCC (power)

## 74HC365
designator U?
footprint DIP-16
pins: 1 ~{E1} (in), 2 D1 (in), 3 Q1 (hiz), 4 D2 (in), 5 Q2 (hiz), 6 D3 (in), 7 Q3 (hiz), 8 GND (power), 9 Q4 (hiz), 10 D4 (in), 11 Q5 (hiz), 12 D5 (in), 13 Q6 (hiz), 14 D6 (in), 15 ~{E1} (in), 16 VCC (power)

## 74HC366
designator U?
footprint DIP-16
pins: 1 G1 (in), 2 D1 (in), 3 Q1 (hiz), 4 D2 (in), 5 Q2 (hiz), 6 D3 (in), 7 Q3 (hiz), 8 GND (power), 9 Q4 (hiz), 10 D4 (in), 11 Q5 (hiz), 12 D5 (in), 13 Q6 (hiz), 14 D6 (in), 15 G2 (in), 16 VCC (power)

## 74HC373
designator U?
footprint DIP-20
pins: 1 ~{OE} (in), 2 Q0 (hiz), 3 D0 (in), 4 D1 (in), 5 Q1 (hiz), 6 Q2 (hiz), 7 D2 (in), 8 D3 (in), 9 Q3 (hiz), 10 GND (power), 11 LE (in), 12 Q4 (hiz), 13 D4 (in), 14 D5 (in), 15 Q5 (hiz), 16 Q6 (hiz), 17 D6 (in), 18 D7 (in), 19 Q7 (hiz), 20 VCC (power)

## 74HC374
designator U?
footprint DIP-20
pins: 1 ~{OE} (in), 2 Q0 (hiz), 3 D0 (in), 4 D1 (in), 5 Q1 (hiz), 6 Q2 (hiz), 7 D2 (in), 8 D3 (in), 9 Q3 (hiz), 10 GND (power), 11 CLK (in), 12 Q4 (hiz), 13 D4 (in), 14 D5 (in), 15 Q5 (hiz), 16 Q6 (hiz), 17 D6 (in), 18 D7 (in), 19 Q7 (hiz), 20 VCC (power)

## 74HC375
designator U?
footprint DIP-16
pins: 1 D0 (in), 2 ~{Q0} (out), 3 Q0 (out), 4 E01 (in), 5 Q1 (out), 6 ~{Q1} (out), 7 D1 (in), 8 GND (power), 9 D2 (in), 10 ~{Q2} (out), 11 Q2 (out), 12 E02 (in), 13 Q3 (out), 14 ~{Q3} (out), 15 D3 (in), 16 VCC (power)

## 74HC377
designator U?
footprint DIP-20
pins: 1 ~{E} (in), 2 Q0 (out), 3 D0 (in), 4 D1 (in), 5 Q1 (out), 6 Q2 (out), 7 D2 (in), 8 D3 (in), 9 Q3 (out), 11 CLK (in), 11 GND (power), 12 Q4 (out), 13 D4 (in), 14 D5 (in), 15 Q5 (out), 16 Q6 (out), 17 D6 (in), 18 D7 (in), 19 Q7 (out), 20 VCC (power)

## 74HC378
designator U?
footprint DIP-16
pins: 1 ~{E} (in), 2 Q0 (out), 3 D0 (in), 4 D1 (in), 5 Q1 (out), 6 D2 (in), 7 Q2 (out), 8 GND (power), 9 CLK (in), 10 Q3 (out), 11 D3 (in), 12 Q4 (out), 13 D4 (in), 14 D5 (in), 15 Q5 (out), 16 VCC (power)

## 74HC379
designator U?
footprint DIP-16
pins: 1 ~{E} (in), 2 Q0 (out), 3 ~{Q0} (out), 4 D0 (in), 5 D1 (in), 6 ~{Q1} (out), 7 Q1 (out), 8 GND (power), 9 CLK (in), 10 Q2 (out), 11 ~{Q2} (out), 12 D2 (in), 13 D3 (in), 14 ~{Q3} (out), 15 Q3 (out), 16 VCC (power)

## 74HC381
designator U?
footprint DIP-20
pins: 1 A1 (in), 2 B1 (in), 3 A0 (in), 4 B0 (in), 5 S0 (in), 6 S1 (in), 7 S2 (in), 8 F0 (out), 9 F1 (out), 10 GND (power), 11 F2 (out), 12 F3 (out), 13 ~{G} (out), 14 ~{P} (out), 15 CN (in), 16 B3 (in), 17 A3 (in), 18 B2 (in), 19 A2 (in), 20 VCC (power)

## 74HC382
designator U?
footprint DIP-20
pins: 1 A1 (in), 2 B1 (in), 3 A0 (in), 4 B0 (in), 5 S0 (in), 6 S1 (in), 7 S2 (in), 8 F0 (out), 9 F1 (out), 10 GND (power), 11 F2 (out), 12 F3 (out), 13 OVR (out), 14 CN+4 (out), 15 CN (in), 16 B3 (in), 17 A3 (in), 18 B2 (in), 19 A2 (in), 20 VCC (power)

## 74HC390
designator U?
footprint DIP-16
part A pins: 1 CP0 (in), 2 MR (in), 3 Q0 (out), 4 CP1 (in), 5 Q1 (out), 6 Q2 (out), 7 Q3 (out), 8 GND (power), 16 VCC (power)
part B pins: 9 Q3 (out), 10 Q2 (out), 11 Q1 (out), 12 CP1 (in), 13 Q0 (out), 14 MR (in), 15 CP0 (in)

## 74HC393
designator U?
footprint DIP-14
part A pins: 1 CLK (in), 2 MR (in), 3 Q0 (out), 4 Q1 (out), 5 Q2 (out), 6 Q3 (out), 7 GND (power), 14 VCC (power)
part B pins: 8 Q3 (out), 9 Q2 (out), 10 Q1 (out), 11 Q0 (out), 12 MR (in), 13 CLK (in)

## 74HC490
designator U?
footprint DIP-16
part A pins: 1 CLK (in), 2 MR (in), 3 Q0 (out), 4 MS (in), 5 Q1 (out), 6 Q2 (out), 7 Q3 (out), 8 GND (power), 16 VCC (power)
part B pins: 9 Q3 (out), 10 Q2 (out), 11 Q1 (out), 12 MS (in), 13 Q0 (out), 14 MR (in), 15 CLK (in)

## 74HC521
designator U?
footprint DIP-20
pins: 1 ~{G} (in), 2 P0 (in), 3 Q0 (in), 4 P1 (in), 5 Q1 (in), 6 P2 (in), 7 Q2 (in), 8 P3 (in), 9 Q3 (in), 10 GND (power), 11 P4 (in), 12 Q4 (in), 13 P5 (in), 14 Q5 (in), 15 P6 (in), 16 Q6 (in), 17 P7 (in), 18 Q7 (in), 19 ~{P=Q} (out), 20 VCC (power)

## 74HC533
designator U?
footprint DIP-20
pins: 1 ~{OC} (in), 2 1~{Q} (out), 3 1D (in), 4 2D (in), 5 2~{Q} (out), 6 3~{Q} (out), 7 3D (in), 8 4D (in), 9 4~{Q} (out), 10 GND (power), 11 C (in), 12 5~{Q} (out), 13 5D (in), 14 6D (in), 15 6~{Q} (out), 16 7~{Q} (out), 17 7D (in), 18 8D (in), 19 8~{Q} (out), 20 VCC (power)

## 74HC534
designator U?
footprint DIP-20
pins: 1 ~{OC} (in), 2 1~{Q} (out), 3 1D (in), 4 2D (in), 5 2~{Q} (out), 6 3~{Q} (out), 7 3D (in), 8 4D (in), 9 4~{Q} (out), 10 GND (power), 11 CLK (in), 12 5~{Q} (out), 13 5D (in), 14 6D (in), 15 6~{Q} (out), 16 7~{Q} (out), 17 7D (in), 18 8D (in), 19 8~{Q} (out), 20 VCC (power)

## 74HC540
designator U?
footprint DIP-20
pins: 1 ~{E1} (in), 2 D1 (in), 3 D2 (in), 4 D3 (in), 5 D4 (in), 6 D5 (in), 7 D6 (in), 8 D7 (in), 9 D8 (in), 10 GND (power), 11 Q8 (hiz), 12 Q7 (hiz), 13 Q6 (hiz), 14 Q5 (hiz), 15 Q4 (hiz), 16 Q3 (hiz), 17 Q2 (hiz), 18 Q1 (hiz), 19 ~{E2} (in), 20 VCC (power)

## 74HC541
designator U?
footprint DIP-20
pins: 1 ~{E1} (in), 2 D1 (in), 3 D2 (in), 4 D3 (in), 5 D4 (in), 6 D5 (in), 7 D6 (in), 8 D7 (in), 9 D8 (in), 10 GND (power), 11 Q8 (hiz), 12 Q7 (hiz), 13 Q6 (hiz), 14 Q5 (hiz), 15 Q4 (hiz), 16 Q3 (hiz), 17 Q2 (hiz), 18 Q1 (hiz), 19 ~{E2} (in), 20 VCC (power)

## 74HC563
designator U?
footprint DIP-20
pins: 1 ~{OC} (in), 2 1D (in), 3 2D (in), 4 3D (in), 5 4D (in), 6 5D (in), 7 6D (in), 8 7D (in), 9 8D (in), 10 GND (power), 11 C (in), 12 8~{Q} (out), 13 7~{Q} (out), 14 6~{Q} (out), 15 5~{Q} (out), 16 4~{Q} (out), 17 3~{Q} (out), 18 2~{Q} (out), 19 1~{Q} (out), 20 VCC (power)

## 74HC564
designator U?
footprint DIP-20
pins: 1 ~{OC} (in), 2 1D (in), 3 2D (in), 4 3D (in), 5 4D (in), 6 5D (in), 7 6D (in), 8 7D (in), 9 8D (in), 10 GND (power), 11 CLK (in), 12 8~{Q} (out), 13 7~{Q} (out), 14 6~{Q} (out), 15 5~{Q} (out), 16 4~{Q} (out), 17 3~{Q} (out), 18 2~{Q} (out), 19 1~{Q} (out), 20 VCC (power)

## 74HC573
designator U?
footprint DIP-20
pins: 1 ~{OC} (in), 2 1D (in), 3 2D (in), 4 3D (in), 5 4D (in), 6 5D (in), 7 6D (in), 8 7D (in), 9 8D (in), 10 GND (power), 11 C (in), 12 8Q (out), 13 7Q (out), 14 6Q (out), 15 5Q (out), 16 4Q (out), 17 3Q (out), 18 2Q (out), 19 1Q (out), 20 VCC (power)

## 74HC574
designator U?
footprint DIP-20
pins: 1 ~{OC} (in), 2 1D (in), 3 2D (in), 4 3D (in), 5 4D (in), 6 5D (in), 7 6D (in), 8 7D (in), 9 8D (in), 10 GND (power), 11 CLK (in), 12 8Q (out), 13 7Q (out), 14 6Q (out), 15 5Q (out), 16 4Q (out), 17 3Q (out), 18 2Q (out), 19 1Q (out), 20 VCC (power)

## 74HC589
designator U?
footprint DIP-16
pins: 1 P2 (in), 2 P3 (in), 3 P4 (in), 4 P5 (in), 5 P6 (in), 6 P7 (in), 7 P8 (in), 8 GND (power), 9 Q8 (hiz), 10 ~{OE} (in), 11 SRCLK (in), 12 RCLK (in), 13 SRLOAD (in), 14 SER (in), 15 P1 (in), 16 VCC (power)

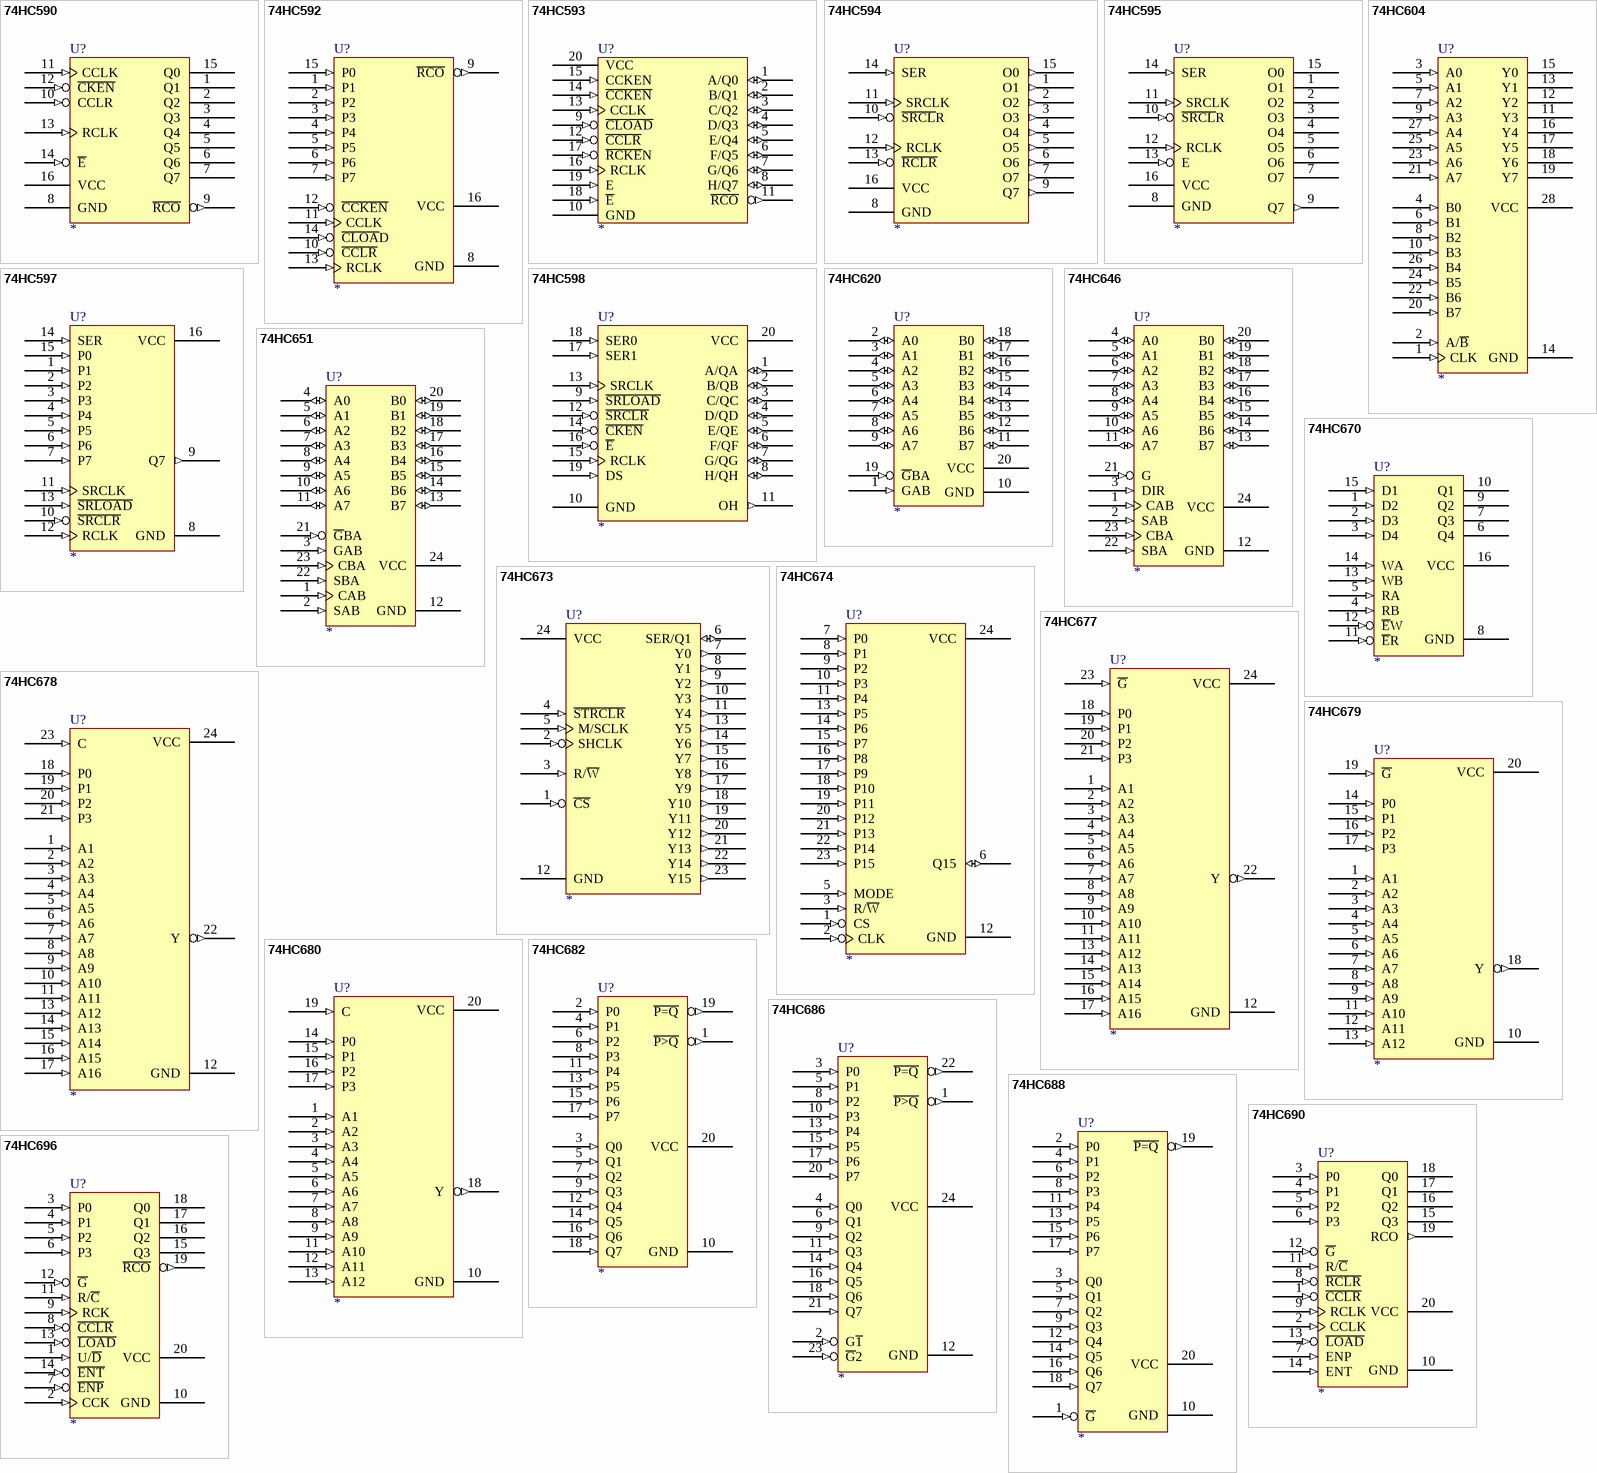
[diagram p5: symbols 74HC590 to 74HC696]

## 74HC590
designator U?
footprint DIP-16
pins: 1 Q1 (hiz), 2 Q2 (hiz), 3 Q3 (hiz), 4 Q4 (hiz), 5 Q5 (hiz), 6 Q6 (hiz), 7 Q7 (hiz), 8 GND (power), 9 ~{RCO} (out), 10 CCLR (in), 11 CCLK (in), 12 ~{CKEN} (in), 13 RCLK (in), 14 ~{E} (in), 15 Q0 (hiz), 16 VCC (power)

## 74HC592
designator U?
footprint DIP-16
pins: 1 P1 (in), 2 P2 (in), 3 P3 (in), 4 P4 (in), 5 P5 (in), 6 P6 (in), 7 P7 (in), 8 GND (power), 9 ~{RCO} (out), 10 ~{CCLR} (in), 11 CCLK (in), 12 ~{CCKEN} (in), 13 RCLK (in), 14 ~{CLOA}D (in), 15 P0 (in), 16 VCC (power)

## 74HC593
designator U?
footprint DIP-20
pins: 1 A/Q0 (io), 2 B/Q1 (io), 3 C/Q2 (io), 4 D/Q3 (io), 5 E/Q4 (io), 6 F/Q5 (io), 7 G/Q6 (io), 8 H/Q7 (io), 9 ~{CLOAD} (in), 10 GND (power), 11 ~{RCO} (out), 12 ~{CCLR} (in), 13 CCLK (in), 14 ~{CCKEN} (in), 15 CCKEN (in), 16 RCLK (in), 17 ~{RCKE}N (in), 18 ~{E} (in), 19 E (in), 20 VCC (power)

## 74HC594
designator U?
footprint DIP-16
pins: 1 O1 (out), 2 O2 (out), 3 O3 (out), 4 O4 (out), 5 O5 (out), 6 O6 (out), 7 O7 (out), 8 GND (power), 9 Q7 (out), 10 ~{SRCL}R (in), 11 SRCLK (in), 12 RCLK (in), 13 ~{RCLR} (in), 14 SER (in), 15 O0 (out), 16 VCC (power)

## 74HC595
designator U?
footprint DIP-16
pins: 1 O1 (hiz), 2 O2 (hiz), 3 O3 (hiz), 4 O4 (hiz), 5 O5 (hiz), 6 O6 (hiz), 7 O7 (hiz), 8 GND (power), 9 Q7 (out), 10 ~{SRCL}R (in), 11 SRCLK (in), 12 RCLK (in), 13 E (in), 14 SER (in), 15 O0 (hiz), 16 VCC (power)

## 74HC597
designator U?
footprint DIP-16
pins: 1 P1 (in), 2 P2 (in), 3 P3 (in), 4 P4 (in), 5 P5 (in), 6 P6 (in), 7 P7 (in), 8 GND (power), 9 Q7 (out), 10 ~{SRCLR} (in), 11 SRCLK (in), 12 RCLK (in), 13 ~{SRLOAD} (in), 14 SER (in), 15 P0 (in), 16 VCC (power)

## 74HC598
designator U?
footprint DIP-20
pins: 1 A/QA (io), 2 B/QB (io), 3 C/QC (io), 4 D/QD (io), 5 E/QE (io), 6 F/QF (io), 7 G/QG (io), 8 H/QH (io), 9 ~{SRLOAD} (in), 10 GND (power), 11 OH (out), 12 ~{SRCLR} (in), 13 SRCLK (in), 14 ~{CKEN} (in), 15 RCLK (in), 16 ~{E} (in), 17 SER1 (in), 18 SER0 (in), 19 DS (in), 20 VCC (power)

## 74HC604
designator U?
footprint DIP-28
pins: 1 CLK (in), 2 A/~{B} (in), 3 A0 (in), 4 B0 (in), 5 A1 (in), 6 B1 (in), 7 A2 (in), 8 B2 (in), 9 A3 (in), 10 B3 (in), 11 Y3 (hiz), 12 Y2 (hiz), 13 Y1 (hiz), 14 GND (power), 15 Y0 (hiz), 16 Y4 (hiz), 17 Y5 (hiz), 18 Y6 (hiz), 19 Y7 (hiz), 20 B7 (in), 21 A7 (in), 22 B6 (in), 23 A6 (in), 24 B5 (in), 25 A5 (in), 26 B4 (in), 27 A4 (in), 28 VCC (power)

## 74HC620
designator U?
footprint DIP-20
pins: 1 GAB (in), 2 A0 (io), 3 A1 (io), 4 A2 (io), 5 A3 (io), 6 A4 (io), 7 A5 (io), 8 A6 (io), 9 A7 (io), 10 GND (power), 11 B7 (io), 12 B6 (io), 13 B5 (io), 14 B4 (io), 15 B3 (io), 16 B2 (io), 17 B1 (io), 18 B0 (io), 19 ~{G}BA (in), 20 VCC (power)

## 74HC646
designator U?
footprint DIP-24
pins: 1 CAB (in), 2 SAB (in), 3 DIR (in), 4 A0 (io), 5 A1 (io), 6 A2 (io), 7 A3 (io), 8 A4 (io), 9 A5 (io), 10 A6 (io), 11 A7 (io), 12 GND (power), 13 B7 (io), 14 B6 (io), 15 B5 (io), 16 B4 (io), 17 B3 (io), 18 B2 (io), 19 B1 (io), 20 B0 (io), 21 G (in), 22 SBA (in), 23 CBA (in), 24 VCC (power)

## 74HC651
designator U?
footprint DIP-24
pins: 1 CAB (in), 2 SAB (in), 3 GAB (in), 4 A0 (io), 5 A1 (io), 6 A2 (io), 7 A3 (io), 8 A4 (io), 9 A5 (io), 10 A6 (io), 11 A7 (io), 12 GND (power), 13 B7 (io), 14 B6 (io), 15 B5 (io), 16 B4 (io), 17 B3 (io), 18 B2 (io), 19 B1 (io), 20 B0 (io), 21 ~{G}BA (in), 22 SBA (in), 23 CBA (in), 24 VCC (power)

## 74HC670
designator U?
footprint DIP-16
pins: 1 D2 (in), 2 D3 (in), 3 D4 (in), 4 RB (in), 5 RA (in), 6 Q4 (hiz), 7 Q3 (hiz), 8 GND (power), 9 Q2 (hiz), 10 Q1 (hiz), 11 ~{E}R (in), 12 ~{E}W (in), 13 WB (in), 14 WA (in), 15 D1 (in), 16 VCC (power)

## 74HC673
designator U?
footprint DIP-24
pins: 1 ~{CS} (in), 2 SHCLK (in), 3 R/~{W} (in), 4 ~{STRCLR} (in), 5 M/SCLK (in), 6 SER/Q1 (io), 7 Y0 (out), 8 Y1 (out), 9 Y2 (out), 10 Y3 (out), 11 Y4 (out), 12 GND (power), 13 Y5 (out), 14 Y6 (out), 15 Y7 (out), 16 Y8 (out), 17 Y9 (out), 18 Y10 (out), 19 Y11 (out), 20 Y12 (out), 21 Y13 (out), 22 Y14 (out), 23 Y15 (out), 24 VCC (power)

## 74HC674
designator U?
footprint DIP-24
pins: 1 CS (in), 2 CLK (in), 3 R/~{W} (in), 5 MODE (in), 6 Q15 (io), 7 P0 (in), 8 P1 (in), 9 P2 (in), 10 P3 (in), 11 P4 (in), 12 GND (power), 13 P5 (in), 14 P6 (in), 15 P7 (in), 16 P8 (in), 17 P9 (in), 18 P10 (in), 19 P11 (in), 20 P12 (in), 21 P13 (in), 22 P14 (in), 23 P15 (in), 24 VCC (power)

## 74HC677
designator U?
footprint DIP-24
pins: 1 A1 (in), 2 A2 (in), 3 A3 (in), 4 A4 (in), 5 A5 (in), 6 A6 (in), 7 A7 (in), 8 A8 (in), 9 A9 (in), 10 A10 (in), 11 A11 (in), 12 GND (power), 13 A12 (in), 14 A13 (in), 15 A14 (in), 16 A15 (in), 17 A16 (in), 18 P0 (in), 19 P1 (in), 20 P2 (in), 21 P3 (in), 22 Y (out), 23 ~{G} (in), 24 VCC (power)

## 74HC678
designator U?
footprint DIP-24
pins: 1 A1 (in), 2 A2 (in), 3 A3 (in), 4 A4 (in), 5 A5 (in), 6 A6 (in), 7 A7 (in), 8 A8 (in), 9 A9 (in), 10 A10 (in), 11 A11 (in), 12 GND (power), 13 A12 (in), 14 A13 (in), 15 A14 (in), 16 A15 (in), 17 A16 (in), 18 P0 (in), 19 P1 (in), 20 P2 (in), 21 P3 (in), 22 Y (out), 23 C (in), 24 VCC (power)

## 74HC679
designator U?
footprint DIP-20
pins: 1 A1 (in), 2 A2 (in), 3 A3 (in), 4 A4 (in), 5 A5 (in), 6 A6 (in), 7 A7 (in), 8 A8 (in), 9 A9 (in), 10 GND (power), 11 A10 (in), 12 A11 (in), 13 A12 (in), 14 P0 (in), 15 P1 (in), 16 P2 (in), 17 P3 (in), 18 Y (out), 19 ~{G} (in), 20 VCC (power)

## 74HC680
designator U?
footprint DIP-20
pins: 1 A1 (in), 2 A2 (in), 3 A3 (in), 4 A4 (in), 5 A5 (in), 6 A6 (in), 7 A7 (in), 8 A8 (in), 9 A9 (in), 10 GND (power), 11 A10 (in), 12 A11 (in), 13 A12 (in), 14 P0 (in), 15 P1 (in), 16 P2 (in), 17 P3 (in), 18 Y (out), 19 C (in), 20 VCC (power)

## 74HC682
designator U?
footprint DIP-20
pins: 1 ~{P>Q} (out), 2 P0 (in), 3 Q0 (in), 4 P1 (in), 5 Q1 (in), 6 P2 (in), 7 Q2 (in), 8 P3 (in), 9 Q3 (in), 10 GND (power), 11 P4 (in), 12 Q4 (in), 13 P5 (in), 14 Q5 (in), 15 P6 (in), 16 Q6 (in), 17 P7 (in), 18 Q7 (in), 19 ~{P=Q} (out), 20 VCC (power)

## 74HC686
designator U?
footprint DIP-24
pins: 1 ~{P>Q} (out), 2 G~{1} (in), 3 P0 (in), 4 Q0 (in), 5 P1 (in), 6 Q1 (in), 8 P2 (in), 9 Q2 (in), 10 P3 (in), 11 Q3 (in), 12 GND (power), 13 P4 (in), 14 Q4 (in), 15 P5 (in), 16 Q5 (in), 17 P6 (in), 18 Q6 (in), 20 P7 (in), 21 Q7 (in), 22 ~{P=Q} (out), 23 ~{G}2 (in), 24 VCC (power)

## 74HC688
designator U?
footprint DIP-20
pins: 1 ~{G} (in), 2 P0 (in), 3 Q0 (in), 4 P1 (in), 5 Q1 (in), 6 P2 (in), 7 Q2 (in), 8 P3 (in), 9 Q3 (in), 10 GND (power), 11 P4 (in), 12 Q4 (in), 13 P5 (in), 14 Q5 (in), 15 P6 (in), 16 Q6 (in), 17 P7 (in), 18 Q7 (in), 19 ~{P=Q} (out), 20 VCC (power)

## 74HC690
designator U?
footprint DIP-20
pins: 1 ~{CCLR} (in), 2 CCLK (in), 3 P0 (in), 4 P1 (in), 5 P2 (in), 6 P3 (in), 7 ENP (in), 8 ~{RCLR} (in), 9 RCLK (in), 10 GND (power), 11 R/~{C} (in), 12 ~{G} (in), 13 ~{LOAD} (in), 14 ENT (in), 15 Q3 (hiz), 16 Q2 (hiz), 17 Q1 (hiz), 18 Q0 (hiz), 19 RCO (out), 20 VCC (power)

## 74HC696
designator U?
footprint DIP-20
pins: 1 U/~{D} (in), 2 CCK (in), 3 P0 (in), 4 P1 (in), 5 P2 (in), 6 P3 (in), 7 ~{ENP} (in), 8 ~{CCLR} (in), 9 RCK (in), 10 GND (power), 11 R/~{C} (in), 12 ~{G} (in), 13 ~{LOAD} (in), 14 ~{ENT} (in), 15 Q3 (hiz), 16 Q2 (hiz), 17 Q1 (hiz), 18 Q0 (hiz), 19 ~{RCO} (out), 20 VCC (power)

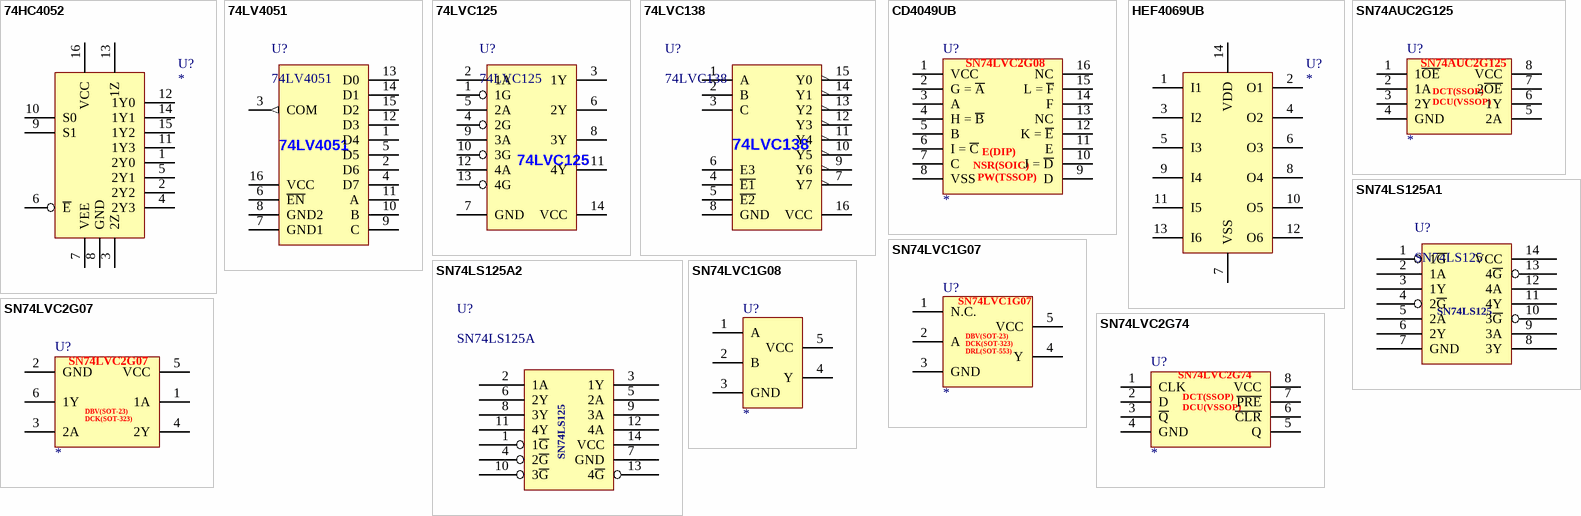
[diagram p6: symbols 74HC4052 to SN74LVC2G74]

## 74HC4052
designator U?
footprint SOIC-16P
footprint DIP-16P
pins: 1 2Y0, 2 2Y2, 3 2Z, 4 2Y3, 5 2Y1, 6 ~{E}, 7 VEE, 8 GND, 9 S1, 10 S0, 11 1Y3, 12 1Y0, 13 1Z, 14 1Y1, 15 1Y2, 16 VCC

## 74LV4051
designator U?
pins: 1 D4, 2 D6, 3 COM (out), 4 D7, 5 D5, 6 ~{EN}, 7 GND1, 8 GND2, 9 C, 10 B, 11 A, 12 D3, 13 D0, 14 D1, 15 D2, 16 VCC

## 74LVC125
designator U?
pins: 1 1G, 2 1A, 3 1Y, 4 2G, 5 2A, 6 2Y, 7 GND, 8 3Y, 9 3A, 10 3G, 11 4Y, 12 4A, 13 4G, 14 VCC

## 74LVC138
designator U?
pins: 1 A, 2 B, 3 C, 4 ~{E1}, 5 ~{E2}, 6 E3, 7 Y7, 8 GND, 9 Y6, 10 Y5, 11 Y4, 12 Y3, 13 Y2, 14 Y1, 15 Y0, 16 VCC

## CD4049UB
designator U?
footprint DIP-16
footprint SOIC-16P
footprint TSSOP-16P
pins: 1 VCC, 2 G = ~{A}, 3 A, 4 H = ~{B}, 5 B, 6 I = ~{C}, 7 C, 8 VSS, 9 D, 10 J = ~{D}, 11 E, 12 K = ~{E}, 13 NC, 14 F, 15 L = ~{F}, 16 NC
text: SN74LVC2G08; E(DIP); NSR(SOIC); PW(TSSOP)

## HEF4069UB
designator U?
footprint SOIC-14P
footprint DIP-14P
pins: 1 I1, 2 O1, 3 I2, 4 O2, 5 I3, 6 O3, 7 VSS, 8 O4, 9 I4, 10 O5, 11 I5, 12 O6, 13 I6, 14 VDD

## SN74AUC2G125
designator U?
footprint SSOP-8P
footprint VSSOP-8P
pins: 1 1~{OE}, 2 1A, 3 2Y, 4 GND, 5 2A, 6 1Y, 7 2~{OE}, 8 VCC
text: DCT(SSOP); DCU(VSSOP)

## SN74LS125A1
designator U?, comment SN74LS125
pins: 1 1~{G}, 2 1A, 3 1Y, 4 2~{G}, 5 2A, 6 2Y, 7 GND, 8 3Y, 9 3A, 10 3~{G}, 11 4Y, 12 4A, 13 4~{G}, 14 VCC

## SN74LS125A2
designator U?, comment SN74LS125A
pins: 1 1~{G}, 2 1A, 3 1Y, 4 2~{G}, 5 2A, 6 2Y, 7 GND, 8 3Y, 9 3A, 10 3~{G}, 11 4Y, 12 4A, 13 4~{G}, 14 VCC
text: SN74LS125

## SN74LVC1G07
designator U?
footprint SOT-23-5P
footprint SOT-323
footprint SOT-553
pins: 1 N.C., 2 A, 3 GND, 4 Y, 5 VCC
text: DBV(SOT-23); DCK(SOT-323); DRL(SOT-553)

## SN74LVC1G08
designator U?
footprint SOT-323
pins: 1 A, 2 B, 3 GND, 4 Y, 5 VCC

## SN74LVC2G07
designator U?
footprint SOT-23-5P
footprint SOT-323
pins: 1 1A, 2 GND, 3 2A, 4 2Y, 5 VCC, 6 1Y
text: DBV(SOT-23); DCK(SOT-323)

## SN74LVC2G74
designator U?
footprint SSOP-8P
footprint VSSOP-8P
pins: 1 CLK, 2 D, 3 ~{Q}, 4 GND, 5 Q, 6 ~{CLR}, 7 ~{PRE}, 8 VCC
text: DCT(SSOP); DCU(VSSOP)